# EAGLE library part 4VLX160FF1513 (library xilinx_spartan3_virtex4_and_5)
Xilinx FPGA
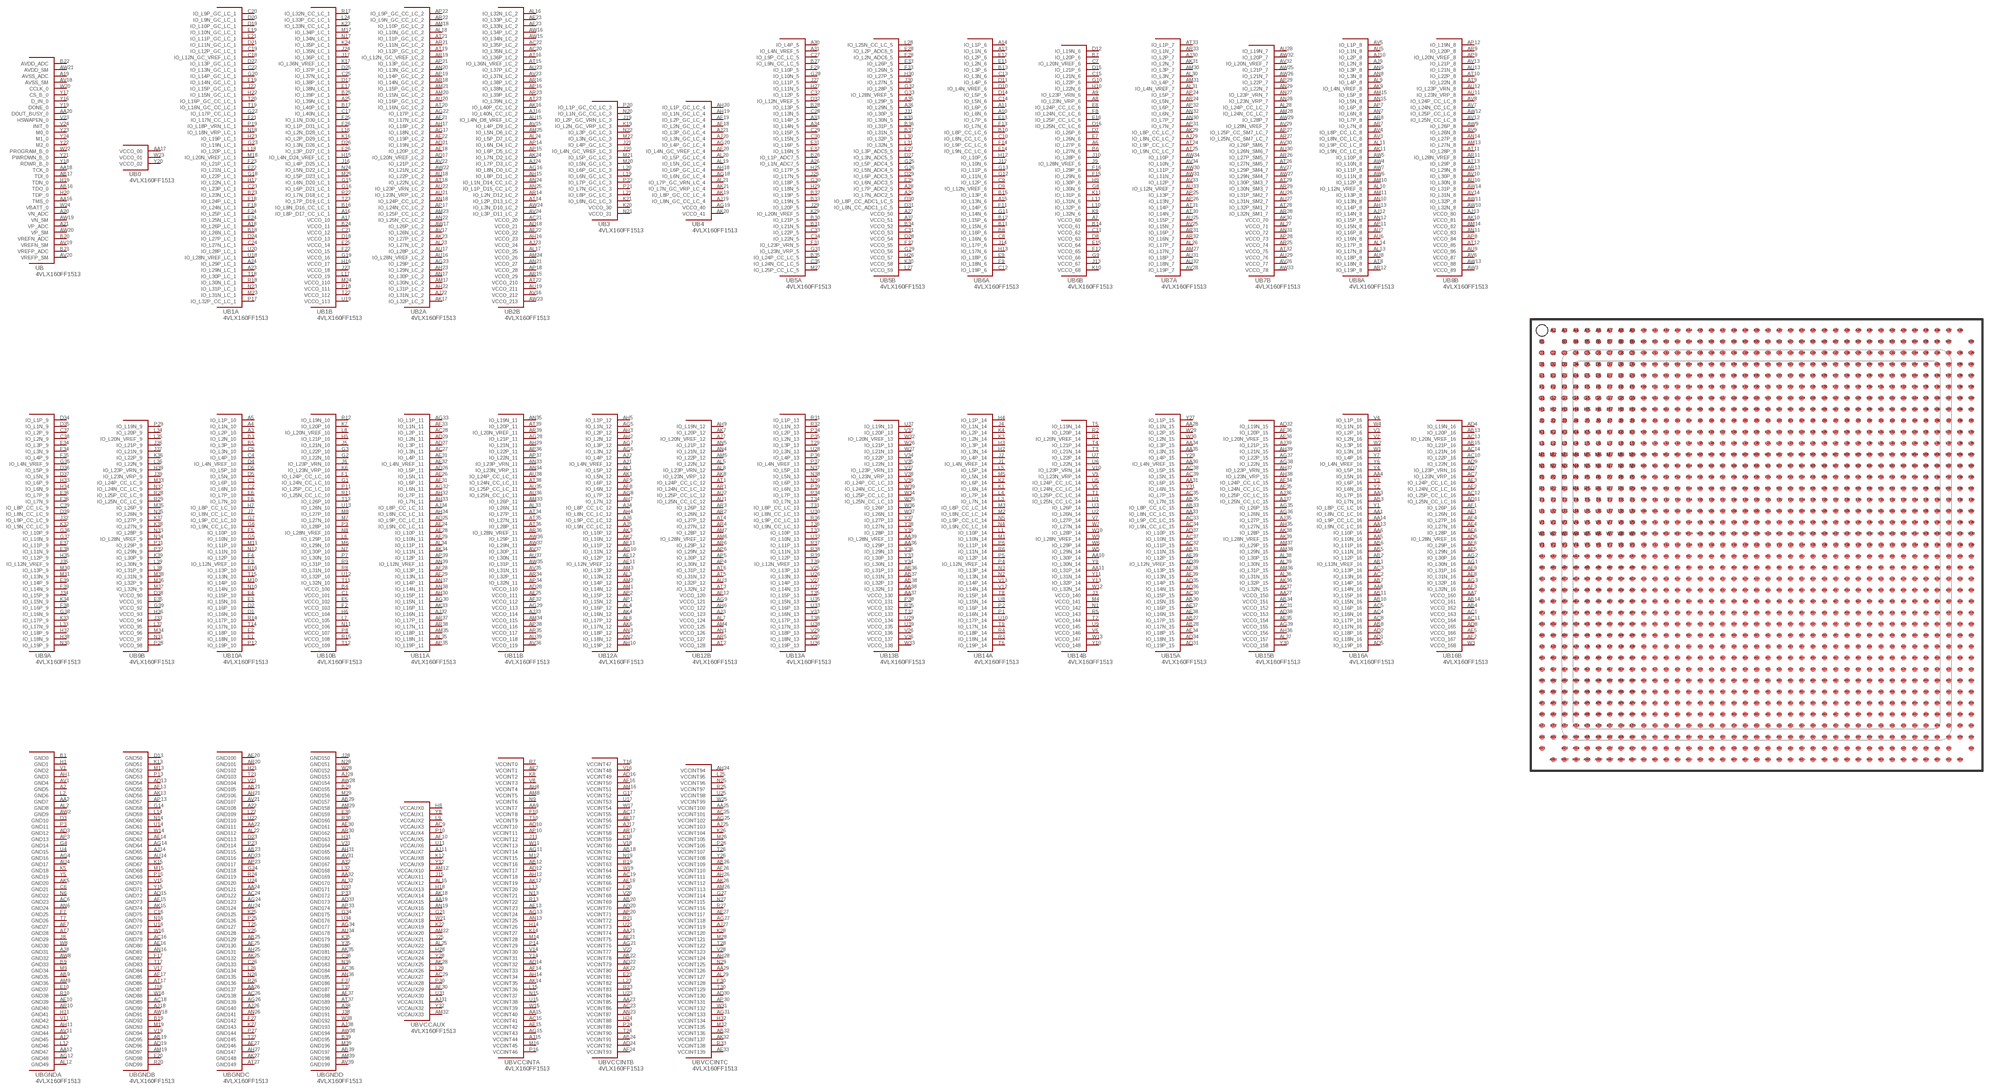
[diagram p86: symbol with the pads of FF1513; footprint FF1513]

Designator prefix U; gates B=4VLX160FF1513_ B0=4VLX160FF1513_0 B1A=4VLX160FF1513_1A B1B=4VLX160FF1513_1B B2A=4VLX160FF1513_2A B2B=4VLX160FF1513_2B B3=4VLX160FF1513_3 B4=4VLX160FF1513_4 B5A=4VLX160FF1513_5A B5B=4VLX160FF1513_5B B6A=4VLX160FF1513_6A B6B=4VLX160FF1513_6B B7A=4VLX160FF1513_7A B7B=4VLX160FF1513_7B B8A=4VLX160FF1513_8A B8B=4VLX160FF1513_8B B9A=4VLX160FF1513_9A B9B=4VLX160FF1513_9B B10A=4VLX160FF1513_10A B10B=4VLX160FF1513_10B B11A=4VLX160FF1513_11A B11B=4VLX160FF1513_11B B12A=4VLX160FF1513_12A B12B=4VLX160FF1513_12B B13A=4VLX160FF1513_13A B13B=4VLX160FF1513_13B B14A=4VLX160FF1513_14A B14B=4VLX160FF1513_14B B15A=4VLX160FF1513_15A B15B=4VLX160FF1513_15B B16A=4VLX160FF1513_16A B16B=4VLX160FF1513_16B BGNDA=4VLX160FF1513_GNDA BGNDB=4VLX160FF1513_GNDB BGNDC=4VLX160FF1513_GNDC BGNDD=4VLX160FF1513_GNDD BVCCAUX=4VLX160FF1513_VCCAUX BVCCINTA=4VLX160FF1513_VCCINTA BVCCINTB=4VLX160FF1513_VCCINTB BVCCINTC=4VLX160FF1513_VCCINTC

## 4VLX160FF1513  [FF1513]
A2  BGNDA:GND5  pas
A3  B10A:IO_L2P_10
A4  B10A:IO_L1N_10
A5  B10A:IO_L1P_10
A6  B6B:IO_L27P_6
A7  B6B:VCCO_60  pas
A8  B6B:IO_L23N_VRP_6
A9  B6B:IO_L23P_VRN_6
A10  B6A:IO_L6N_6
A11  B6A:IO_L6P_6
A12  BGNDA:GND45  pas
A13  B6A:IO_L1N_6
A14  B6A:IO_L1P_6
A15  B6A:IO_L13N_6
A16  B1B:IO_L8P_D17_CC_LC_1
A17  B1B:VCCO_10  pas
A18  B1A:IO_L26P_LC_1
A19  B:AVSS_ADC
A20  B:VN_ADC
A21  B:VP_ADC
A22  BGNDC:GND108  pas
A23  B1A:IO_L29N_LC_1
A24  B1A:IO_L29P_LC_1
A25  B1B:IO_L39N_LC_1
A26  B5A:IO_L1N_ADC7_5
A27  B5B:VCCO_50  pas
A28  B5B:IO_L7P_ADC2_5
A29  B5B:IO_L7N_ADC2_5
A30  B5A:IO_L4P_5
A31  B5A:IO_L4N_VREF_5
A32  BGNDD:GND167  pas
A33  B5A:IO_L14P_5
A34  B5A:IO_L14N_5
A35  B5B:IO_L29P_5
A36  B5B:IO_L29N_5
A37  B5B:VCCO_51  pas
A38  BGNDD:GND190  pas
AA1  B16A:IO_L8N_CC_LC_16
AA2  BGNDA:GND7  pas
AA3  B16A:IO_L7P_16
AA4  B16A:IO_L5N_16
AA5  B16A:IO_L10N_16
AA6  B16A:IO_L10P_16
AA7  B16B:VCCO_160  pas
AA8  B16A:IO_L14N_16
AA9  BVCCINTA:VCCINT7  pas
AA10  B14B:IO_L30P_14
AA11  B14B:IO_L31P_14
AA12  BGNDA:GND47  pas
AA13  B16A:IO_L9N_CC_LC_16
AA14  B16A:IO_L9P_CC_LC_16
AA15  BVCCINTA:VCCINT40  pas
AA16  B:TMS_0
AA17  B0:VCCO_00  pas
AA18  B:TCK_0
AA19  BVCCAUX:VCCAUX15  pas
AA20  B:DOUT_BUSY_0
AA21  BVCCINTB:VCCINT74  pas
AA22  BGNDC:GND111  pas
AA23  BVCCINTB:VCCINT85  pas
AA24  BGNDC:GND121  pas
AA25  BVCCINTC:VCCINT100  pas
AA26  BGNDC:GND137  pas
AA27  B15B:VCCO_150  pas
AA28  B15A:IO_L1N_15
AA29  BVCCINTC:VCCINT126  pas
AA30  B15A:IO_L4N_VREF_15
AA31  B15A:IO_L6P_15
AA32  BGNDD:GND169  pas
AA33  B15A:IO_L8N_CC_LC_15
AA34  B15A:IO_L3P_15
AA35  B15A:IO_L3N_15
AA36  B13B:IO_L29P_13
AA37  B13B:VCCO_130  pas
AA38  B13B:IO_L32N_13
AA39  B13B:IO_L28N_VREF_13
AB1  B16A:IO_L12N_VREF_16
AB2  B16A:IO_L12P_16
AB3  B16A:IO_L7N_16
AB4  B16B:VCCO_162  pas
AB5  B16A:IO_L11N_16
AB6  B16A:IO_L11P_16
AB7  B16A:IO_L14P_16
AB8  B16A:IO_L17N_16
AB9  BGNDA:GND35  pas
AB10  B16A:IO_L15N_16
AB11  B16A:IO_L15P_16
AB12  BVCCINTA:VCCINT16  pas
AB13  B16B:IO_L20P_16
AB14  B16B:VCCO_161  pas
AB15  B16B:IO_L21P_16
AB16  B:TDO_0
AB17  B:TDI_0
AB18  BVCCINTB:VCCINT61  pas
AB19  BGNDB:GND95  pas
AB20  BVCCINTB:VCCINT69  pas
AB21  BGNDC:GND105  pas
AB22  BVCCINTB:VCCINT78  pas
AB23  BGNDC:GND115  pas
AB24  BVCCINTB:VCCINT91  pas
AB25  BGNDC:GND129  pas
AB26  BVCCINTC:VCCINT109  pas
AB27  B15A:IO_L17P_15
AB28  B15A:IO_L17N_15
AB29  BGNDD:GND157  pas
AB30  B15A:IO_L15N_15
AB31  B15A:IO_L11N_15
AB32  BVCCINTC:VCCINT136  pas
AB33  B15A:IO_L8P_CC_LC_15
AB34  B15B:VCCO_151  pas
AB35  B15A:IO_L7N_15
AB36  B13B:IO_L31P_13
AB37  B13B:IO_L31N_13
AB38  B13B:IO_L32P_13
AB39  BGNDD:GND197  pas
AC1  B16B:VCCO_163  pas
AC2  B16A:IO_L13N_16
AC3  B16A:IO_L13P_16
AC4  B16A:IO_L16N_16
AC5  B16A:IO_L16P_16
AC6  BGNDA:GND23  pas
AC7  B16B:IO_L23N_VRP_16
AC8  B16A:IO_L17P_16
AC9  BVCCAUX:VCCAUX3  pas
AC10  B16B:IO_L22P_16
AC11  B16B:VCCO_164  pas
AC12  B16B:IO_L25P_CC_LC_16
AC13  B16B:IO_L20N_VREF_16
AC14  B16B:IO_L21N_16
AC15  BVCCINTA:VCCINT41  pas
AC16  BGNDB:GND79  pas
AC17  BVCCINTB:VCCINT55  pas
AC18  BGNDB:GND89  pas
AC19  BVCCINTB:VCCINT65  pas
AC20  B2B:IO_L35N_LC_2
AC21  B2B:VCCO_20  pas
AC22  B2B:IO_L35P_LC_2
AC23  BVCCINTB:VCCINT86  pas
AC24  BGNDC:GND122  pas
AC25  BVCCINTC:VCCINT101  pas
AC26  BGNDC:GND138  pas
AC27  B11A:IO_L3N_11
AC28  B11A:IO_L2P_11
AC29  BVCCAUX:VCCAUX27  pas
AC30  B15A:IO_L15P_15
AC31  B15B:VCCO_152  pas
AC32  B15A:IO_L11P_15
AC33  B15A:IO_L9P_CC_LC_15
AC34  B15A:IO_L9N_CC_LC_15
AC35  B15A:IO_L7P_15
AC36  BGNDD:GND184  pas
AC37  B15A:IO_L10N_15
AC38  B15A:IO_L5P_15
AC39  B15A:IO_L5N_15
AD1  B16A:IO_L18N_16
AD2  B16A:IO_L18P_16
AD3  BGNDA:GND12  pas
AD4  B16B:IO_L19N_16
AD5  B16A:IO_L19P_16
AD6  B16B:IO_L28N_VREF_16
AD7  B16B:IO_L23P_VRN_16
AD8  B16B:VCCO_165  pas
AD9  B16B:IO_L22N_16
AD10  BVCCINTA:VCCINT10  pas
AD11  B16B:IO_L25N_CC_LC_16
AD12  BVCCINTA:VCCINT17  pas
AD13  BGNDB:GND54  pas
AD14  BVCCINTA:VCCINT32  pas
AD15  BGNDB:GND72  pas
AD16  BVCCINTB:VCCINT49  pas
AD17  B2A:IO_L20N_VREF_LC_2
AD18  B2B:VCCO_21  pas
AD19  BGNDB:GND96  pas
AD20  BVCCINTB:VCCINT70  pas
AD21  B2A:IO_L19N_LC_2
AD22  BVCCINTB:VCCINT79  pas
AD23  BGNDC:GND116  pas
AD24  BVCCINTB:VCCINT92  pas
AD25  B11A:IO_L9P_CC_LC_11
AD26  B11A:IO_L5P_11
AD27  B11A:IO_L3P_11
AD28  B11B:VCCO_110  pas
AD29  B11A:IO_L2N_11
AD30  BVCCINTC:VCCINT130  pas
AD31  B15A:IO_L19P_15
AD32  B15B:IO_L19N_15
AD33  BGNDD:GND173  pas
AD34  B15A:IO_L18N_15
AD35  B15A:IO_L14P_15
AD36  B15A:IO_L14N_15
AD37  B15A:IO_L10P_15
AD38  B15B:VCCO_153  pas
AD39  B15A:IO_L12N_VREF_15
AE1  B16B:IO_L26N_16
AE2  B16B:IO_L24N_CC_LC_16
AE3  B16B:IO_L24P_CC_LC_16
AE4  B16B:IO_L27N_16
AE5  B16B:VCCO_166  pas
AE6  B16B:IO_L28P_16
AE7  BVCCINTA:VCCINT1  pas
AE8  B16B:IO_L31N_16
AE9  B16B:IO_L31P_16
AE10  BGNDA:GND39  pas
AE11  B12A:IO_L12N_VREF_12
AE12  B12A:IO_L12P_12
AE13  BVCCINTA:VCCINT23  pas
AE14  BGNDB:GND63  pas
AE15  BVCCINTA:VCCINT42  pas
AE16  BGNDB:GND80  pas
AE17  BVCCINTB:VCCINT56  pas
AE18  B2A:IO_L20P_LC_2
AE19  BVCCINTB:VCCINT66  pas
AE20  BGNDC:GND100  pas
AE21  BVCCINTB:VCCINT75  pas
AE22  B2A:IO_L19P_LC_2
AE23  B2B:IO_L33P_LC_2
AE24  B11A:IO_L9N_CC_LC_11
AE25  B11B:VCCO_111  pas
AE26  B11A:IO_L5N_11
AE27  BVCCINTC:VCCINT117  pas
AE28  B11A:IO_L10P_11
AE29  B11A:IO_L10N_11
AE30  BGNDD:GND161  pas
AE31  B11A:IO_L4P_11
AE32  B11A:IO_L4N_VREF_11
AE33  BVCCINTC:VCCINT139  pas
AE34  B15A:IO_L18P_15
AE35  B15B:VCCO_154  pas
AE36  B15B:IO_L20N_VREF_15
AE37  B15A:IO_L16P_15
AE38  B15A:IO_L16N_15
AE39  B15A:IO_L12P_15
AF1  B16B:IO_L26P_16
AF2  B16B:VCCO_167  pas
AF3  B16B:IO_L32N_16
AF4  B16B:IO_L27P_16
AF5  B16B:IO_L29N_16
AF6  B16B:IO_L29P_16
AF7  BGNDA:GND27  pas
AF8  B12A:IO_L6N_12
AF9  B12A:IO_L6P_12
AF10  BVCCAUX:VCCAUX5  pas
AF11  B12A:IO_L11P_12
AF12  B12B:VCCO_120  pas
AF13  BGNDB:GND55  pas
AF14  BVCCINTA:VCCINT33  pas
AF15  BGNDB:GND73  pas
AF16  BVCCINTB:VCCINT50  pas
AF17  BGNDB:GND85  pas
AF18  B4:IO_L2N_GC_LC_4
AF19  B4:IO_L2P_GC_LC_4
AF20  B4:IO_L4N_GC_VREF_LC_4
AF21  B2A:IO_L17N_LC_2
AF22  B2B:VCCO_22  pas
AF23  B2B:IO_L33N_LC_2
AF24  BVCCINTB:VCCINT93  pas
AF25  BGNDC:GND130  pas
AF26  BVCCINTC:VCCINT110  pas
AF27  BGNDC:GND146  pas
AF28  B11A:IO_L13P_11
AF29  B11A:IO_L13N_11
AF30  BVCCAUX:VCCAUX29  pas
AF31  B11A:IO_L6P_11
AF32  B11B:VCCO_112  pas
AF33  B11A:IO_L1N_11
AF34  B15B:IO_L24P_CC_LC_15
AF35  B15B:IO_L24N_CC_LC_15
AF36  B15B:IO_L20P_15
AF37  BGNDD:GND188  pas
AF38  B15A:IO_L13P_15
AF39  B15A:IO_L13N_15
AG1  B16B:IO_L30N_16
AG2  B16B:IO_L30P_16
AG3  B16B:IO_L32P_16
AG4  BGNDA:GND16  pas
AG5  B12A:IO_L1N_12
AG6  B12A:IO_L3N_12
AG7  B12A:IO_L3P_12
AG8  B12A:IO_L7P_12
AG9  B12B:VCCO_121  pas
AG10  B12A:IO_L11N_12
AG11  BVCCINTA:VCCINT14  pas
AG12  BGNDA:GND48  pas
AG13  BVCCINTA:VCCINT24  pas
AG14  BGNDB:GND64  pas
AG15  BVCCINTA:VCCINT43  pas
AG16  B2B:IO_L8N_D0_LC_2
AG17  B2A:IO_L18N_LC_2
AG18  B4:IO_L6N_GC_LC_4
AG19  B4:VCCO_40  pas
AG20  B4:IO_L4P_GC_LC_4
AG21  BVCCINTB:VCCINT76  pas
AG22  B2A:IO_L17P_LC_2
AG23  B2A:IO_L29P_LC_2
AG24  BGNDC:GND123  pas
AG25  BVCCINTC:VCCINT102  pas
AG26  BGNDC:GND139  pas
AG27  BVCCINTC:VCCINT118  pas
AG28  B11B:IO_L21P_11
AG29  B11B:VCCO_113  pas
AG30  B11A:IO_L15N_11
AG31  BVCCINTC:VCCINT133  pas
AG32  B11A:IO_L6N_11
AG33  B11A:IO_L1P_11
AG34  BGNDD:GND177  pas
AG35  B15B:IO_L26P_15
AG36  B15B:IO_L26N_15
AG37  B15B:IO_L22P_15
AG38  B15B:IO_L22N_15
AG39  B15B:VCCO_155  pas
AH1  BGNDA:GND3  pas
AH2  B12A:IO_L2N_12
AH3  B12A:IO_L2P_12
AH4  B12A:IO_L8N_CC_LC_12
AH5  B12A:IO_L1P_12
AH6  B12B:VCCO_122  pas
AH7  B12A:IO_L7N_12
AH8  BVCCINTA:VCCINT4  pas
AH9  B12B:IO_L19N_12
AH10  B12A:IO_L19P_12
AH11  BGNDA:GND43  pas
AH12  BVCCINTA:VCCINT18  pas
AH13  B8A:IO_L14P_8
AH14  BVCCINTA:VCCINT34  pas
AH15  B2B:IO_L8P_D1_LC_2
AH16  B2B:VCCO_23  pas
AH17  B2A:IO_L18P_LC_2
AH18  B4:IO_L6P_GC_LC_4
AH19  B4:IO_L1N_GC_LC_4
AH20  B4:IO_L1P_GC_LC_4
AH21  BGNDC:GND106  pas
AH22  B2A:IO_L31P_LC_2
AH23  B2A:IO_L29N_LC_2
AH24  BVCCINTC:VCCINT94  pas
AH25  BGNDC:GND131  pas
AH26  BVCCINTC:VCCINT111  pas
AH27  BGNDC:GND147  pas
AH28  BVCCINTC:VCCINT124  pas
AH29  B11B:IO_L21N_11
AH30  B11A:IO_L15P_11
AH31  BGNDD:GND165  pas
AH32  B11A:IO_L7P_11
AH33  B11A:IO_L7N_11
AH34  B11A:IO_L8N_CC_LC_11
AH35  B15B:IO_L27N_15
AH36  B15B:VCCO_156  pas
AH37  B15B:IO_L23P_VRN_15
AH38  B15B:IO_L23N_VRP_15
AH39  B15B:IO_L21N_15
AJ1  B12A:IO_L4N_VREF_12
AJ2  B12A:IO_L4P_12
AJ3  B12B:VCCO_123  pas
AJ4  B12A:IO_L8P_CC_LC_12
AJ5  B12A:IO_L9N_CC_LC_12
AJ6  B12A:IO_L9P_CC_LC_12
AJ7  B12B:IO_L20N_VREF_12
AJ8  BGNDA:GND31  pas
AJ9  B8A:IO_L2N_8
AJ10  B8A:IO_L2P_8
AJ11  BVCCAUX:VCCAUX7  pas
AJ12  B8A:IO_L14N_8
AJ13  B8B:VCCO_80  pas
AJ14  BGNDB:GND65  pas
AJ15  BVCCINTA:VCCINT44  pas
AJ16  B2B:IO_L40N_CC_LC_2
AJ17  BVCCINTB:VCCINT57  pas
AJ18  BGNDB:GND90  pas
AJ19  B4:IO_L8N_GC_CC_LC_4
AJ20  B4:IO_L3N_GC_LC_4
AJ21  B4:IO_L3P_GC_LC_4
AJ22  B2A:IO_L31N_LC_2
AJ23  B2B:VCCO_24  pas
AJ24  B2B:IO_L7P_D3_LC_2
AJ25  BVCCINTC:VCCINT103  pas
AJ26  BGNDC:GND140  pas
AJ27  BVCCINTC:VCCINT119  pas
AJ28  BGNDD:GND153  pas
AJ29  B7A:IO_L8N_CC_LC_7
AJ30  B7A:IO_L2P_7
AJ31  BVCCAUX:VCCAUX31  pas
AJ32  B11A:IO_L16N_11
AJ33  B11B:VCCO_114  pas
AJ34  B11A:IO_L8P_CC_LC_11
AJ35  B15B:IO_L27P_15
AJ36  B15B:IO_L25P_CC_LC_15
AJ37  B15B:IO_L25N_CC_LC_15
AJ38  BGNDD:GND193  pas
AJ39  B15B:IO_L21P_15
AK1  B12A:IO_L5N_12
AK2  B12A:IO_L10N_12
AK3  B12A:IO_L10P_12
AK4  B12A:IO_L16N_12
AK5  BGNDA:GND20  pas
AK6  B12A:IO_L17N_12
AK7  B12B:IO_L20P_12
AK8  B12B:IO_L23N_VRP_12
AK9  B8A:IO_L4N_VREF_8
AK10  B8B:VCCO_81  pas
AK11  B8A:IO_L9N_CC_LC_8
AK12  BVCCINTA:VCCINT19  pas
AK13  BGNDB:GND56  pas
AK14  BVCCINTA:VCCINT35  pas
AK15  BGNDB:GND74  pas
AK16  B2B:IO_L40P_CC_LC_2
AK17  B2A:IO_L32P_LC_2
AK18  BVCCAUX:VCCAUX14  pas
AK19  B4:IO_L8P_GC_CC_LC_4
AK20  B4:VCCO_41  pas
AK21  B4:IO_L7N_GC_VRP_LC_4
AK22  BVCCINTB:VCCINT80  pas
AK23  B2A:IO_L27P_LC_2
AK24  B2B:IO_L7N_D2_LC_2
AK25  BGNDC:GND132  pas
AK26  BVCCINTC:VCCINT112  pas
AK27  BGNDC:GND148  pas
AK28  BVCCAUX:VCCAUX25  pas
AK29  B7A:IO_L8P_CC_LC_7
AK30  B7B:VCCO_70  pas
AK31  B7A:IO_L2N_7
AK32  BVCCINTC:VCCINT137  pas
AK33  B11A:IO_L16P_11
AK34  B11A:IO_L11N_11
AK35  BGNDD:GND181  pas
AK36  B15B:IO_L32P_15
AK37  B15B:IO_L32N_15
AK38  B15B:IO_L28P_15
AK39  B15B:IO_L28N_VREF_15
AL1  B12A:IO_L5P_12
AL2  BGNDA:GND8  pas
AL3  B12A:IO_L13N_12
AL4  B12A:IO_L16P_12
AL5  B12B:IO_L22N_12
AL6  B12A:IO_L17P_12
AL7  B12B:VCCO_124  pas
AL8  B12B:IO_L23P_VRN_12
AL9  B8A:IO_L4P_8
AL10  B8A:IO_L12N_VREF_8
AL11  B8A:IO_L9P_CC_LC_8
AL12  BGNDA:GND49  pas
AL13  B8A:IO_L17N_8
AL14  B8A:IO_L17P_8
AL15  BVCCAUX:VCCAUX12  pas
AL16  B2B:IO_L32N_LC_2
AL17  B2B:VCCO_25  pas
AL18  B2A:IO_L10N_GC_LC_2
AL19  B4:IO_L5N_GC_LC_4
AL20  B4:IO_L5P_GC_LC_4
AL21  B4:IO_L7P_GC_VRN_LC_4
AL22  BGNDC:GND112  pas
AL23  B2A:IO_L27N_LC_2
AL24  B2B:IO_L5P_D7_LC_2
AL25  BVCCAUX:VCCAUX22  pas
AL26  B7A:IO_L17P_7
AL27  B7B:VCCO_71  pas
AL28  B7B:IO_L24P_CC_LC_7
AL29  BVCCINTC:VCCINT127  pas
AL30  B7A:IO_L3N_7
AL31  B7A:IO_L4N_VREF_7
AL32  BGNDD:GND170  pas
AL33  B11B:IO_L26N_11
AL34  B11A:IO_L11P_11
AL35  B11A:IO_L18N_11
AL36  B15B:IO_L31N_15
AL37  B15B:VCCO_157  pas
AL38  B15B:IO_L30P_15
AL39  B15B:IO_L30N_15
AM1  B12A:IO_L14N_12
AM2  B12A:IO_L14P_12
AM3  B12A:IO_L13P_12
AM4  B12B:VCCO_125  pas
AM5  B12B:IO_L22P_12
AM6  B12B:IO_L28N_VREF_12
AM7  B12B:IO_L28P_12
AM8  BVCCINTA:VCCINT5  pas
AM9  BGNDA:GND36  pas
AM10  B8A:IO_L12P_8
AM11  B8A:IO_L13P_8
AM12  BVCCAUX:VCCAUX10  pas
AM13  B8B:IO_L27N_8
AM14  B8B:VCCO_82  pas
AM15  B8A:IO_L5P_8
AM16  BVCCINTB:VCCINT51  pas
AM17  B2A:IO_L30N_LC_2
AM18  B2A:IO_L10P_GC_LC_2
AM19  BGNDB:GND97  pas
AM20  B2A:IO_L15N_GC_LC_2
AM21  B2A:IO_L15P_GC_LC_2
AM22  BVCCAUX:VCCAUX20  pas
AM23  B2A:IO_L25P_CC_LC_2
AM24  B2B:VCCO_26  pas
AM25  B2B:IO_L5N_D6_LC_2
AM26  BVCCINTC:VCCINT113  pas
AM27  B7A:IO_L17N_7
AM28  B7B:IO_L24N_CC_LC_7
AM29  BGNDD:GND158  pas
AM30  B7A:IO_L3P_7
AM31  B7A:IO_L4P_7
AM32  BVCCAUX:VCCAUX33  pas
AM33  B11B:IO_L26P_11
AM34  B11B:VCCO_115  pas
AM35  B11A:IO_L18P_11
AM36  B15B:IO_L31P_15
AM37  B15B:IO_L29P_15
AM38  B15B:IO_L29N_15
AM39  BGNDD:GND198  pas
AN1  B12B:VCCO_126  pas
AN2  B12A:IO_L18N_12
AN3  B12A:IO_L18P_12
AN4  B12B:IO_L21N_12
AN5  B12B:IO_L21P_12
AN6  BGNDA:GND24  pas
AN7  B8A:IO_L6N_8
AN8  B8A:IO_L3N_8
AN9  B8A:IO_L3P_8
AN10  B8A:IO_L13N_8
AN11  B8B:VCCO_83  pas
AN12  B8A:IO_L15P_8
AN13  BVCCINTA:VCCINT25  pas
AN14  B8B:IO_L27P_8
AN15  B8A:IO_L5N_8
AN16  BGNDB:GND81  pas
AN17  B2A:IO_L30P_LC_2
AN18  B2A:IO_L24P_CC_LC_2
AN19  BVCCAUX:VCCAUX16  pas
AN20  B2A:IO_L13N_GC_LC_2
AN21  B2B:VCCO_27  pas
AN22  B2A:IO_L25N_CC_LC_2
AN23  BVCCINTB:VCCINT87  pas
AN24  B2B:IO_L1N_D14_CC_LC_2
AN25  B2B:IO_L1P_D15_CC_LC_2
AN26  BGNDC:GND141  pas
AN27  B7B:IO_L23P_VRN_7
AN28  B7B:IO_L23N_VRP_7
AN29  B7B:IO_L22N_7
AN30  B7A:IO_L7P_7
AN31  B7B:VCCO_72  pas
AN32  B7A:IO_L6N_7
AN33  B11B:IO_L23P_VRN_11
AN34  B11B:IO_L23N_VRP_11
AN35  B11B:IO_L19N_11
AN36  BGNDD:GND185  pas
AN37  B11A:IO_L14P_11
AN38  B11A:IO_L14N_11
AN39  B11A:IO_L12N_VREF_11
AP1  B12A:IO_L15N_12
AP2  B12A:IO_L15P_12
AP3  BGNDA:GND13  pas
AP4  B12B:IO_L30N_12
AP5  B12B:IO_L30P_12
AP6  B12B:IO_L29N_12
AP7  B8A:IO_L6P_8
AP8  B8B:VCCO_84  pas
AP9  B8B:IO_L20N_VREF_8
AP10  BVCCINTA:VCCINT11  pas
AP11  B8A:IO_L15N_8
AP12  B8B:IO_L19N_8
AP13  BGNDB:GND57  pas
AP14  B2B:IO_L6N_D4_LC_2
AP15  B2B:IO_L6P_D5_LC_2
AP16  B2B:IO_L38N_LC_2
AP17  B2A:IO_L24N_CC_LC_2
AP18  B2B:VCCO_28  pas
AP19  B2A:IO_L14P_GC_LC_2
AP20  BVCCINTB:VCCINT71  pas
AP21  B2A:IO_L13P_GC_LC_2
AP22  B2A:IO_L9P_GC_CC_LC_2
AP23  BGNDC:GND117  pas
AP24  B7A:IO_L5P_7
AP25  B7A:IO_L13P_7
AP26  B7A:IO_L13N_7
AP27  B7B:IO_L25P_CC_SM7_LC_7
AP28  B7B:VCCO_73  pas
AP29  B7B:IO_L22P_7
AP30  BVCCINTC:VCCINT131  pas
AP31  B7A:IO_L7N_7
AP32  B7A:IO_L6P_7
AP33  BGNDD:GND174  pas
AP34  B11B:IO_L32N_11
AP35  B11A:IO_L19P_11
AP36  B11B:IO_L22P_11
AP37  B11B:IO_L22N_11
AP38  B11B:VCCO_116  pas
AP39  B11A:IO_L12P_11
AR1  B12B:IO_L24N_CC_LC_12
AR2  B12B:IO_L26N_12
AR3  B12B:IO_L26P_12
AR4  B12B:IO_L27N_12
AR5  B12B:VCCO_127  pas
AR6  B12B:IO_L29P_12
AR7  B8A:IO_L7N_8
AR8  B8A:IO_L7P_8
AR9  B8B:IO_L20P_8
AR10  BGNDA:GND40  pas
AR11  B8B:IO_L28N_VREF_8
AR12  B8A:IO_L19P_8
AR13  B8B:IO_L29N_8
AR14  B2B:IO_L2N_D12_LC_2
AR15  B2B:VCCO_29  pas
AR16  B2B:IO_L38P_LC_2
AR17  BVCCINTB:VCCINT58  pas
AR18  B2A:IO_L14N_GC_LC_2
AR19  B2A:IO_L12N_GC_VREF_LC_2
AR20  BGNDC:GND101  pas
AR21  B2A:IO_L11N_GC_LC_2
AR22  B2A:IO_L9N_GC_CC_LC_2
AR23  B2B:IO_L39P_LC_2
AR24  B7A:IO_L5N_7
AR25  B7B:VCCO_74  pas
AR26  B7B:IO_L27P_SM5_7
AR27  B7B:IO_L25N_CC_SM7_LC_7
AR28  B7B:IO_L32N_SM1_7
AR29  B7B:IO_L30N_SM3_7
AR30  BGNDD:GND162  pas
AR31  B7A:IO_L16P_7
AR32  B7A:IO_L16N_7
AR33  B7A:IO_L1N_7
AR34  B11B:IO_L32P_11
AR35  B11B:VCCO_117  pas
AR36  B11B:IO_L28N_VREF_11
AR37  B11A:IO_L17P_11
AR38  B11A:IO_L17N_11
AR39  B11B:IO_L20N_VREF_11
AT1  B12B:IO_L24P_CC_LC_12
AT2  B12B:VCCO_128  pas
AT3  B12B:IO_L32N_12
AT4  B12B:IO_L27P_12
AT5  B12B:IO_L31N_12
AT6  B12B:IO_L31P_12
AT7  BGNDA:GND28  pas
AT8  B8A:IO_L18N_8
AT9  B8B:IO_L22N_8
AT10  B8B:IO_L22P_8
AT11  B8B:IO_L28P_8
AT12  B8B:VCCO_85  pas
AT13  B8B:IO_L29P_8
AT14  B2B:IO_L2P_D13_LC_2
AT15  B2B:IO_L36N_VREF_LC_2
AT16  B2B:IO_L36P_LC_2
AT17  BGNDB:GND86  pas
AT18  B2A:IO_L22N_LC_2
AT19  B2A:IO_L12P_GC_LC_2
AT20  B2A:IO_L16N_GC_LC_2
AT21  B2A:IO_L11P_GC_LC_2
AT22  B2B:VCCO_210  pas
AT23  B2B:IO_L39N_LC_2
AT24  B7A:IO_L9P_CC_LC_7
AT25  B7A:IO_L9N_CC_LC_7
AT26  B7B:IO_L27N_SM5_7
AT27  BGNDC:GND149  pas
AT28  B7B:IO_L32P_SM1_7
AT29  B7B:IO_L30P_SM3_7
AT30  B7A:IO_L14N_7
AT31  B7A:IO_L14P_7
AT32  B7B:VCCO_75  pas
AT33  B7A:IO_L1P_7
AT34  B11B:IO_L27P_11
AT35  B11B:IO_L27N_11
AT36  B11B:IO_L28P_11
AT37  BGNDD:GND189  pas
AT38  B11B:IO_L24N_CC_LC_11
AT39  B11B:IO_L20P_11
AU1  B12B:IO_L25N_CC_LC_12
AU2  B12B:IO_L25P_CC_LC_12
AU3  B12B:IO_L32P_12
AU4  BGNDA:GND17  pas
AU5  B8A:IO_L1N_8
AU6  B8A:IO_L16N_8
AU7  B8A:IO_L16P_8
AU8  B8A:IO_L18P_8
AU9  B8B:VCCO_86  pas
AU10  B8B:IO_L30N_8
AU11  B8B:IO_L23N_VRP_8
AU12  B8B:IO_L23P_VRN_8
AU13  B8B:IO_L21N_8
AU14  BGNDB:GND66  pas
AU15  B2B:IO_L4N_D8_VREF_LC_2
AU16  B2A:IO_L28N_VREF_LC_2
AU17  B2A:IO_L28P_LC_2
AU18  B2A:IO_L22P_LC_2
AU19  B2B:VCCO_211  pas
AU20  B2A:IO_L16P_GC_LC_2
AU21  B2A:IO_L23N_VRP_LC_2
AU22  B2A:IO_L23P_VRN_LC_2
AU23  B2B:IO_L37P_LC_2
AU24  BGNDC:GND124  pas
AU25  B7A:IO_L15P_7
AU26  B7B:IO_L31P_SM2_7
AU27  B7B:IO_L31N_SM2_7
AU28  B7B:IO_L19N_7
AU29  B7B:VCCO_76  pas
AU30  B7B:IO_L26N_SM6_7
AU31  B7A:IO_L18P_7
AU32  B7A:IO_L18N_7
AU33  B7A:IO_L12N_VREF_7
AU34  BGNDD:GND178  pas
AU35  B11B:IO_L25P_CC_LC_11
AU36  B11B:IO_L25N_CC_LC_11
AU37  B11B:IO_L30N_11
AU38  B11B:IO_L24P_CC_LC_11
AU39  B11B:VCCO_118  pas
AV1  BGNDA:GND4  pas
AV3  B8A:IO_L8N_CC_LC_8
AV4  B8A:IO_L8P_CC_LC_8
AV5  B8A:IO_L1P_8
AV6  B8B:VCCO_87  pas
AV7  B8B:IO_L24N_CC_LC_8
AV8  B8B:IO_L24P_CC_LC_8
AV9  B8B:IO_L26N_8
AV10  B8B:IO_L30P_8
AV11  BGNDA:GND44  pas
AV12  B8B:IO_L25N_CC_LC_8
AV13  B8B:IO_L21P_8
AV14  B8B:IO_L31N_8
AV15  B2B:IO_L4P_D9_LC_2
AV16  B2B:VCCO_212  pas
AV17  B2A:IO_L26N_LC_2
AV18  B:AVSS_SM
AV19  B:VREFN_SM
AV20  B:VREFP_SM
AV21  BGNDC:GND107  pas
AV22  B2A:IO_L21P_LC_2
AV23  B2B:IO_L37N_LC_2
AV24  B2B:IO_L3P_D11_LC_2
AV25  B7A:IO_L15N_7
AV26  B7B:VCCO_77  pas
AV27  B7B:IO_L29P_SM4_7
AV28  B7A:IO_L19P_7
AV29  B7B:IO_L28N_VREF_7
AV30  B7B:IO_L26P_SM6_7
AV31  BGNDD:GND166  pas
AV32  B7B:IO_L20N_VREF_7
AV33  B7A:IO_L12P_7
AV34  B7A:IO_L10N_7
AV35  B11B:IO_L31N_11
AV36  B11B:VCCO_119  pas
AV37  B11B:IO_L30P_11
AV39  BGNDD:GND199  pas
AW2  BGNDA:GND9  pas
AW3  B8B:VCCO_89  pas
AW4  B8A:IO_L10N_8
AW5  B8A:IO_L10P_8
AW6  B8A:IO_L11N_8
AW7  B8A:IO_L11P_8
AW8  BGNDA:GND32  pas
AW9  B8B:IO_L26P_8
AW10  B8B:IO_L32N_8
AW11  B8B:IO_L32P_8
AW12  B8B:IO_L25P_CC_LC_8
AW13  B8B:VCCO_88  pas
AW14  B8B:IO_L31P_8
AW15  B2B:IO_L34N_LC_2
AW16  B2B:IO_L34P_LC_2
AW17  B2A:IO_L26P_LC_2
AW18  BGNDB:GND91  pas
AW19  B:VN_SM
AW20  B:VP_SM
AW21  B:AVDD_SM
AW22  B2A:IO_L21N_LC_2
AW23  B2B:VCCO_213  pas
AW24  B2B:IO_L3N_D10_LC_2
AW25  B7B:IO_L21P_7
AW26  B7B:IO_L21N_7
AW27  B7B:IO_L29N_SM4_7
AW28  BGNDD:GND154  pas
AW29  B7B:IO_L28P_7
AW30  B7A:IO_L11P_7
AW31  B7A:IO_L11N_7
AW32  B7B:IO_L20P_7
AW33  B7B:VCCO_78  pas
AW34  B7A:IO_L10P_7
AW35  B11B:IO_L31P_11
AW36  B11B:IO_L29P_11
AW37  B11B:IO_L29N_11
AW38  BGNDD:GND194  pas
B1  BGNDA:GND0  pas
B3  B10A:IO_L2N_10
B4  B10B:VCCO_100  pas
B5  B10A:IO_L3P_10
B6  B6B:IO_L27N_6
B7  B6B:IO_L20P_6
B8  B6A:IO_L16P_6
B9  BGNDA:GND33  pas
B10  B6A:IO_L8P_CC_LC_6
B11  B6A:IO_L15N_6
B12  B6A:IO_L15P_6
B13  B6A:IO_L3P_6
B14  B6B:VCCO_61  pas
B15  B6A:IO_L13P_6
B16  B1B:IO_L8N_D16_CC_LC_1
B17  B1B:IO_L40P_LC_1
B18  B1A:IO_L26N_LC_1
B19  BGNDB:GND92  pas
B20  B:VREFN_ADC
B21  B:VREFP_ADC
B22  B:AVDD_ADC
B23  B1A:IO_L23N_LC_1
B24  B1B:VCCO_11  pas
B25  B1B:IO_L39P_LC_1
B26  B5A:IO_L1P_ADC7_5
B27  B5A:IO_L9N_CC_LC_5
B28  B5A:IO_L13P_5
B29  BGNDD:GND155  pas
B30  B5A:IO_L21P_5
B31  B5A:IO_L21N_5
B32  B5A:IO_L19P_5
B33  B5A:IO_L19N_5
B34  B5B:VCCO_52  pas
B35  B5A:IO_L24P_CC_LC_5
B36  B5B:IO_L31P_5
B37  B5B:IO_L31N_5
B39  BGNDD:GND195  pas
C1  B10B:VCCO_101  pas
C2  B10A:IO_L6N_10
C3  B10A:IO_L6P_10
C4  B10A:IO_L4P_10
C5  B10A:IO_L3N_10
C6  BGNDA:GND21  pas
C7  B6B:IO_L20N_VREF_6
C8  B6A:IO_L16N_6
C9  B6A:IO_L12P_6
C10  B6A:IO_L8N_CC_LC_6
C11  B6B:VCCO_62  pas
C12  B6A:IO_L19P_6
C13  B6A:IO_L3N_6
C14  B6A:IO_L5N_6
C15  B6B:IO_L21N_6
C16  BGNDB:GND75  pas
C17  B1B:IO_L40N_LC_1
C18  B1A:IO_L12N_GC_VREF_LC_1
C19  B1A:IO_L12P_GC_LC_1
C20  B1A:IO_L9P_GC_LC_1
C21  B1B:VCCO_12  pas
C22  B1A:IO_L13N_GC_LC_1
C23  B1A:IO_L23P_LC_1
C24  B1A:IO_L27N_LC_1
C25  B1B:IO_L37N_LC_1
C26  BGNDC:GND133  pas
C27  B5A:IO_L9P_CC_LC_5
C28  B5A:IO_L13N_5
C29  B5A:IO_L15P_5
C30  B5A:IO_L15N_5
C31  B5B:VCCO_53  pas
C32  B5A:IO_L12P_5
C33  B5A:IO_L22P_5
C34  B5A:IO_L22N_5
C35  B5A:IO_L24N_CC_LC_5
C36  BGNDD:GND182  pas
C37  B9A:IO_L2P_9
C38  B9A:IO_L2N_9
C39  B9A:IO_L8P_CC_LC_9
D1  B10A:IO_L16N_10
D2  B10A:IO_L16P_10
D3  BGNDA:GND10  pas
D4  B10A:IO_L4N_VREF_10
D5  B10A:IO_L5N_10
D6  B10A:IO_L5P_10
D7  B6B:IO_L26P_6
D8  B6B:VCCO_63  pas
D9  B6A:IO_L12N_VREF_6
D10  B6A:IO_L4N_VREF_6
D11  B6A:IO_L4P_6
D12  B6B:IO_L19N_6
D13  BGNDB:GND50  pas
D14  B6A:IO_L5P_6
D15  B6B:IO_L21P_6
D16  B6B:IO_L25N_CC_LC_6
D17  B1B:IO_L38P_LC_1
D18  B1B:VCCO_13  pas
D19  B1A:IO_L10P_GC_LC_1
D20  B1A:IO_L9N_GC_LC_1
D21  B1A:IO_L11N_GC_LC_1
D22  B1A:IO_L13P_GC_LC_1
D23  BGNDC:GND113  pas
D24  B1A:IO_L27P_LC_1
D25  B1B:IO_L37P_LC_1
D26  B1B:IO_L3N_D26_LC_1
D27  B5B:IO_L3N_ADC5_5
D28  B5B:VCCO_54  pas
D29  B5B:IO_L6P_ADC3_5
D30  B5B:IO_L8P_CC_ADC1_LC_5
D31  B5B:IO_L8N_CC_ADC1_LC_5
D32  B5A:IO_L12N_VREF_5
D33  BGNDD:GND171  pas
D34  B9A:IO_L1P_9
D35  B9A:IO_L1N_9
D36  B9A:IO_L5P_9
D37  B9A:IO_L5N_9
D38  B9B:VCCO_90  pas
D39  B9A:IO_L8N_CC_LC_9
E1  B10A:IO_L18N_10
E2  B10A:IO_L18P_10
E3  B10A:IO_L15N_10
E4  B10A:IO_L15P_10
E5  B10B:VCCO_102  pas
E6  B10A:IO_L7P_10
E7  B6B:IO_L26N_6
E8  B6B:IO_L24P_CC_LC_6
E9  B6A:IO_L18P_6
E10  BGNDA:GND37  pas
E11  B6A:IO_L2N_6
E12  B6A:IO_L2P_6
E13  B6A:IO_L7P_6
E14  B6A:IO_L9N_CC_LC_6
E15  B6B:VCCO_64  pas
E16  B6B:IO_L25P_CC_LC_6
E17  B1B:IO_L38N_LC_1
E18  B1A:IO_L24P_LC_1
E19  B1A:IO_L10N_GC_LC_1
E20  BGNDB:GND98  pas
E21  B1A:IO_L11P_GC_LC_1
E22  B1A:IO_L21N_LC_1
E23  BVCCINTB:VCCINT81  pas
E24  B1A:IO_L25N_LC_1
E25  B1B:VCCO_14  pas
E26  B1B:IO_L3P_D27_LC_1
E27  B5B:IO_L3P_ADC5_5
E28  B5B:IO_L2P_ADC6_5
E29  B5B:IO_L6N_ADC3_5
E30  BGNDD:GND159  pas
E31  B5A:IO_L16P_5
E32  B5A:IO_L16N_5
E33  B5B:IO_L26P_5
E34  B9A:IO_L3P_9
E35  B9B:VCCO_91  pas
E36  B9A:IO_L7P_9
E37  B9A:IO_L11P_9
E38  B9A:IO_L11N_9
E39  B9A:IO_L14P_9
F1  B10B:IO_L24P_CC_LC_10
F2  B10B:VCCO_103  pas
F3  B10A:IO_L12N_VREF_10
F4  B10A:IO_L12P_10
F5  B10A:IO_L10P_10
F6  B10A:IO_L7N_10
F7  BGNDA:GND25  pas
F8  B6B:IO_L24N_CC_LC_6
F9  B6A:IO_L18N_6
F10  BVCCINTA:VCCINT8  pas
F11  B6A:IO_L14P_6
F12  B6B:VCCO_65  pas
F13  B6A:IO_L7N_6
F14  B6A:IO_L9P_CC_LC_6
F15  B6B:IO_L29N_6
F16  B6B:IO_L29P_6
F17  BGNDB:GND82  pas
F18  B1A:IO_L24N_LC_1
F19  B1A:IO_L14N_GC_LC_1
F20  BVCCINTB:VCCINT67  pas
F21  B1A:IO_L17N_CC_LC_1
F22  B1B:VCCO_15  pas
F23  B1A:IO_L21P_LC_1
F24  B1A:IO_L25P_LC_1
F25  B1B:IO_L1N_D30_LC_1
F26  B1B:IO_L1P_D31_LC_1
F27  BGNDC:GND142  pas
F28  B5B:IO_L2N_ADC6_5
F29  B5A:IO_L10P_5
F30  BVCCINTC:VCCINT128  pas
F31  B5A:IO_L23P_VRN_5
F32  B5B:VCCO_55  pas
F33  B5B:IO_L26N_5
F34  B9A:IO_L3N_9
F35  B9A:IO_L4P_9
F36  B9A:IO_L7N_9
F37  BGNDD:GND186  pas
F38  B9A:IO_L16P_9
F39  B9A:IO_L14N_9
G1  B10B:IO_L24N_CC_LC_10
G2  B10B:IO_L22N_10
G3  B10B:IO_L22P_10
G4  BGNDA:GND14  pas
G5  B10A:IO_L10N_10
G6  B10A:IO_L9N_CC_LC_10
G7  B10A:IO_L9P_CC_LC_10
G8  B6B:IO_L30N_6
G9  B6B:VCCO_66  pas
G10  B6B:IO_L22P_6
G11  B6A:IO_L14N_6
G12  B6A:IO_L11N_6
G13  B6A:IO_L11P_6
G14  BGNDB:GND58  pas
G15  B1B:IO_L6N_D20_LC_1
G16  B1B:IO_L6P_D21_LC_1
G17  BVCCINTB:VCCINT52  pas
G18  B1A:IO_L22P_LC_1
G19  B1B:VCCO_16  pas
G20  B1A:IO_L14P_GC_LC_1
G21  BVCCAUX:VCCAUX17  pas
G22  B1A:IO_L17P_CC_LC_1
G23  B1A:IO_L19N_LC_1
G24  BGNDC:GND118  pas
G25  B5B:IO_L5P_ADC4_5
G26  B5B:IO_L5N_ADC4_5
G27  BVCCINTC:VCCINT114  pas
G28  B5A:IO_L10N_5
G29  B5B:VCCO_56  pas
G30  B5A:IO_L18P_5
G31  B5A:IO_L23N_VRP_5
G32  B5B:IO_L28P_5
G33  B5B:IO_L28N_VREF_5
G34  BGNDD:GND175  pas
G35  B9A:IO_L4N_VREF_9
G36  B9A:IO_L10P_9
G37  B9A:IO_L10N_9
G38  B9A:IO_L16N_9
G39  B9B:VCCO_92  pas
H1  BGNDA:GND1  pas
H2  B14A:IO_L3N_14
H3  B14A:IO_L3P_14
H4  B14A:IO_L1P_14
H5  B10B:IO_L21P_10
H6  B10B:VCCO_104  pas
H7  B10A:IO_L8P_CC_LC_10
H8  BVCCAUX:VCCAUX0  pas
H9  B6B:IO_L30P_6
H10  B6B:IO_L22N_6
H11  BGNDA:GND41  pas
H12  B6A:IO_L10P_6
H13  B6A:IO_L17N_6
H14  BVCCINTA:VCCINT26  pas
H15  B1B:IO_L4N_D24_VREF_LC_1
H16  B1B:VCCO_17  pas
H17  B1A:IO_L22N_LC_1
H18  BVCCAUX:VCCAUX13  pas
H19  B:TDN_0
H20  B:TDP_0
H21  BGNDC:GND102  pas
H22  B1A:IO_L15N_GC_LC_1
H23  B1A:IO_L19P_LC_1
H24  BVCCINTB:VCCINT88  pas
H25  B5A:IO_L17P_5
H26  B5B:VCCO_57  pas
H27  B5A:IO_L11N_5
H28  BVCCAUX:VCCAUX23  pas
H29  B5A:IO_L18N_5
H30  B5B:IO_L27P_5
H31  BGNDD:GND163  pas
H32  BVCCINTC:VCCINT134  pas
H33  B9A:IO_L6P_9
H34  B9A:IO_L6N_9
H35  B9A:IO_L12P_9
H36  B9B:VCCO_93  pas
H37  B9A:IO_L18P_9
H38  B9A:IO_L18N_9
H39  B9B:IO_L23P_VRN_9
J1  B14A:IO_L4N_VREF_14
J2  B14A:IO_L4P_14
J3  B14B:VCCO_140  pas
J4  B14A:IO_L1N_14
J5  B10B:IO_L21N_10
J6  B10B:IO_L23P_VRN_10
J7  B10A:IO_L8N_CC_LC_10
J8  BGNDA:GND29  pas
J9  B6B:IO_L28N_VREF_6
J10  B6B:IO_L28P_6
J11  BVCCINTA:VCCINT12  pas
J12  B6A:IO_L10N_6
J13  B6B:VCCO_67  pas
J14  B6A:IO_L17P_6
J15  BVCCAUX:VCCAUX11  pas
J16  B1B:IO_L4P_D25_LC_1
J17  B1B:IO_L36P_LC_1
J18  BGNDB:GND87  pas
J19  B3:IO_L2P_GC_VRN_LC_3
J20  B3:IO_L4N_GC_VREF_LC_3
J21  B3:IO_L4P_GC_LC_3
J22  B1A:IO_L15P_GC_LC_1
J23  B1B:VCCO_18  pas
J24  B1B:IO_L35N_LC_1
J25  BVCCAUX:VCCAUX21  pas
J26  B5A:IO_L17N_5
J27  B5A:IO_L11P_5
J28  BGNDD:GND150  pas
J29  B5A:IO_L20P_5
J30  B5B:IO_L27N_5
J31  B5B:IO_L30P_5
J32  B9A:IO_L9P_CC_LC_9
J33  B9B:VCCO_94  pas
J34  B9A:IO_L15P_9
J35  B9A:IO_L12N_VREF_9
J36  B9B:IO_L21P_9
J37  B9B:IO_L21N_9
J38  BGNDD:GND191  pas
J39  B9B:IO_L23N_VRP_9
K1  B14A:IO_L6N_14
K2  B14A:IO_L6P_14
K3  B14A:IO_L2N_14
K4  B14A:IO_L2P_14
K5  BGNDA:GND18  pas
K6  B10B:IO_L23N_VRP_10
K7  B10B:IO_L20P_10
K8  BVCCINTA:VCCINT2  pas
K9  B6B:IO_L32N_6
K10  B6B:VCCO_68  pas
K11  B6B:IO_L31P_6
K12  BVCCAUX:VCCAUX8  pas
K13  BGNDB:GND51  pas
K14  BVCCINTA:VCCINT27  pas
K15  BGNDB:GND67  pas
K16  B1B:IO_L2P_D29_LC_1
K17  B1B:IO_L36N_VREF_LC_1
K18  BVCCINTB:VCCINT59  pas
K19  B3:IO_L2N_GC_VRP_LC_3
K20  B3:VCCO_30  pas
K21  B3:IO_L8N_GC_LC_3
K22  BVCCAUX:VCCAUX19  pas
K23  B1B:IO_L33N_CC_LC_1
K24  B1B:IO_L35P_LC_1
K25  BGNDC:GND125  pas
K26  BVCCINTC:VCCINT104  pas
K27  BGNDC:GND143  pas
K28  BVCCINTC:VCCINT120  pas
K29  B5A:IO_L20N_VREF_5
K30  B5B:VCCO_58  pas
K31  B5B:IO_L30N_5
K32  B9A:IO_L9N_CC_LC_9
K33  B9A:IO_L17P_9
K34  B9A:IO_L15N_9
K35  BGNDD:GND179  pas
K36  B9B:IO_L22P_9
K37  B9B:IO_L27P_9
K38  B9B:IO_L27N_9
K39  B9B:IO_L30P_9
L1  B14A:IO_L10P_14
L2  BGNDA:GND6  pas
L3  B14A:IO_L7N_14
L4  B14A:IO_L7P_14
L5  B14A:IO_L5P_14
L6  B10B:IO_L29P_10
L7  B10B:VCCO_105  pas
L8  B10B:IO_L20N_VREF_10
L9  BVCCAUX:VCCAUX2  pas
L10  B6B:IO_L32P_6
L11  B6B:IO_L31N_6
L12  BGNDA:GND46  pas
L13  BVCCINTA:VCCINT20  pas
L14  BGNDB:GND59  pas
L15  BVCCINTA:VCCINT36  pas
L16  B1B:IO_L2N_D28_LC_1
L17  B1B:VCCO_19  pas
L18  B1A:IO_L20P_LC_1
L19  B3:IO_L6N_GC_LC_3
L20  B3:IO_L6P_GC_LC_3
L21  B3:IO_L8P_GC_LC_3
L22  BGNDC:GND109  pas
L23  BVCCINTB:VCCINT82  pas
L24  B1B:IO_L33P_CC_LC_1
L25  BVCCINTC:VCCINT95  pas
L26  BGNDC:GND134  pas
L27  B5B:VCCO_59  pas
L28  B5B:IO_L25N_CC_LC_5
L29  BVCCAUX:VCCAUX26  pas
L30  B5B:IO_L32P_5
L31  B5B:IO_L32N_5
L32  BGNDD:GND168  pas
L33  B9A:IO_L17N_9
L34  B9B:IO_L20P_9
L35  B9B:IO_L20N_VREF_9
L36  B9B:IO_L22N_9
L37  B9B:VCCO_95  pas
L38  B9B:IO_L31P_9
L39  B9B:IO_L30N_9
M1  B14A:IO_L10N_14
M2  B14A:IO_L8N_CC_LC_14
M3  B14A:IO_L8P_CC_LC_14
M4  B14B:VCCO_141  pas
M5  B14A:IO_L5N_14
M6  B10B:IO_L29N_10
M7  B10B:IO_L27N_10
M8  B10B:IO_L27P_10
M9  BGNDA:GND34  pas
M10  B10A:IO_L14P_10
M11  B10A:IO_L11P_10
M12  BVCCINTA:VCCINT15  pas
M13  BGNDB:GND52  pas
M14  BVCCINTA:VCCINT28  pas
M15  BGNDB:GND68  pas
M16  BVCCINTA:VCCINT45  pas
M17  B1B:IO_L34P_LC_1
M18  B1A:IO_L20N_VREF_LC_1
M19  BGNDB:GND93  pas
M20  B3:IO_L5N_GC_LC_3
M21  B3:IO_L5P_GC_LC_3
M22  B3:IO_L3N_GC_LC_3
M23  B1A:IO_L31N_LC_1
M24  B1B:VCCO_110  pas
M25  B1B:IO_L5P_D23_LC_1
M26  BVCCINTC:VCCINT105  pas
M27  B5A:IO_L25P_CC_LC_5
M28  BVCCINTC:VCCINT121  pas
M29  BGNDD:GND156  pas
M30  B9A:IO_L13P_9
M31  B9A:IO_L13N_9
M32  BVCCINTC:VCCINT135  pas
M33  B9B:IO_L24P_CC_LC_9
M34  B9B:VCCO_96  pas
M35  B9B:IO_L26P_9
M36  B9B:IO_L32P_9
M37  B9B:IO_L32N_9
M38  B9B:IO_L31N_9
M39  BGNDD:GND196  pas
N1  B14B:VCCO_142  pas
N2  B14A:IO_L13N_14
N3  B14A:IO_L13P_14
N4  B14A:IO_L9N_CC_LC_14
N5  B14A:IO_L9P_CC_LC_14
N6  BGNDA:GND22  pas
N7  B10B:IO_L30P_10
N8  B10B:IO_L28N_VREF_10
N9  BVCCINTA:VCCINT6  pas
N10  B10A:IO_L14N_10
N11  B10B:VCCO_106  pas
N12  B10A:IO_L11N_10
N13  BVCCINTA:VCCINT21  pas
N14  BGNDB:GND60  pas
N15  BVCCINTA:VCCINT37  pas
N16  BGNDB:GND76  pas
N17  B1B:IO_L34N_LC_1
N18  B1A:IO_L18N_VRP_LC_1
N19  BVCCINTB:VCCINT62  pas
N20  B3:IO_L1N_GC_CC_LC_3
N21  B3:VCCO_31  pas
N22  B3:IO_L3P_GC_LC_3
N23  B1A:IO_L31P_LC_1
N24  B1B:IO_L5N_D22_LC_1
N25  BVCCINTC:VCCINT96  pas
N26  BGNDC:GND135  pas
N27  BVCCINTC:VCCINT115  pas
N28  BGNDD:GND151  pas
N29  BVCCINTC:VCCINT125  pas
N30  B9A:IO_L19P_9
N31  B9B:VCCO_97  pas
N32  B9B:IO_L24N_CC_LC_9
N33  B9B:IO_L28P_9
N34  B9B:IO_L28N_VREF_9
N35  B9B:IO_L26N_9
N36  BGNDD:GND183  pas
N37  B13A:IO_L5P_13
N38  B13A:IO_L5N_13
N39  B13A:IO_L6P_13
P1  B14A:IO_L16N_14
P2  B14A:IO_L16P_14
P3  BGNDA:GND11  pas
P4  B14A:IO_L12N_VREF_14
P5  B14A:IO_L12P_14
P6  B14A:IO_L11P_14
P7  B10B:IO_L30N_10
P8  B10B:VCCO_107  pas
P9  B10B:IO_L28P_10
P10  BVCCAUX:VCCAUX4  pas
P11  B10B:IO_L25P_CC_LC_10
P12  B10A:IO_L19P_10
P13  BGNDB:GND53  pas
P14  BVCCINTA:VCCINT29  pas
P15  BGNDB:GND69  pas
P16  BVCCINTA:VCCINT46  pas
P17  B1A:IO_L32P_CC_LC_1
P18  B1B:VCCO_111  pas
P19  B1A:IO_L18P_VRN_LC_1
P20  B3:IO_L1P_GC_CC_LC_3
P21  B3:IO_L7N_GC_LC_3
P22  B3:IO_L7P_GC_LC_3
P23  BGNDC:GND114  pas
P24  BVCCINTB:VCCINT89  pas
P25  BGNDC:GND126  pas
P26  BVCCINTC:VCCINT106  pas
P27  BGNDC:GND144  pas
P28  B9B:VCCO_98  pas
P29  B9B:IO_L19N_9
P30  BVCCAUX:VCCAUX28  pas
P31  B9B:IO_L29P_9
P32  B9B:IO_L29N_9
P33  BGNDD:GND172  pas
P34  B13A:IO_L2P_13
P35  B13A:IO_L2N_13
P36  B13A:IO_L4P_13
P37  B13A:IO_L4N_VREF_13
P38  B13B:VCCO_131  pas
P39  B13A:IO_L6N_13
R1  B14B:IO_L20N_VREF_14
R2  B14B:IO_L20P_14
R3  B14A:IO_L18N_14
R4  B14A:IO_L18P_14
R5  B14B:VCCO_143  pas
R6  B14A:IO_L11N_14
R7  BVCCINTA:VCCINT0  pas
R8  B10B:IO_L31N_10
R9  B10B:IO_L31P_10
R10  BGNDA:GND38  pas
R11  B10B:IO_L25N_CC_LC_10
R12  B10B:IO_L19N_10
R13  BVCCINTA:VCCINT22  pas
R14  B10A:IO_L17P_10
R15  B10B:VCCO_108  pas
R16  B10A:IO_L13P_10
R17  B1B:IO_L32N_CC_LC_1
R18  B1A:IO_L30N_LC_1
R19  BVCCINTB:VCCINT63  pas
R20  BGNDB:GND99  pas
R21  BVCCINTB:VCCINT72  pas
R22  B1B:IO_L7N_D18_LC_1
R23  BVCCINTB:VCCINT83  pas
R24  BGNDC:GND119  pas
R25  BVCCINTC:VCCINT97  pas
R26  BGNDC:GND136  pas
R27  BVCCINTC:VCCINT116  pas
R28  B9B:IO_L25P_CC_LC_9
R29  B9B:IO_L25N_CC_LC_9
R30  BGNDD:GND160  pas
R31  B13A:IO_L1P_13
R32  B13A:IO_L1N_13
R33  BVCCINTC:VCCINT138  pas
R34  B13A:IO_L7P_13
R35  B13B:VCCO_132  pas
R36  B13A:IO_L9P_CC_LC_13
R37  B13A:IO_L11P_13
R38  B13A:IO_L11N_13
R39  B13A:IO_L12P_13
T1  B14B:IO_L25P_CC_LC_14
T2  B14B:VCCO_144  pas
T3  B14B:IO_L21N_14
T4  B14B:IO_L21P_14
T5  B14B:IO_L19N_14
T6  B14A:IO_L19P_14
T7  BGNDA:GND26  pas
T8  B14A:IO_L15P_14
T9  B14A:IO_L17N_14
T10  BVCCINTA:VCCINT9  pas
T11  B10B:IO_L32N_10
T12  B10B:VCCO_109  pas
T13  B10B:IO_L26P_10
T14  B10A:IO_L17N_10
T15  B10A:IO_L13N_10
T16  BVCCINTB:VCCINT47  pas
T17  BGNDB:GND83  pas
T18  B1A:IO_L30P_LC_1
T19  B1A:IO_L16N_GC_CC_LC_1
T20  B1A:IO_L16P_GC_CC_LC_1
T21  BGNDC:GND103  pas
T22  B1B:VCCO_112  pas
T23  B1B:IO_L7P_D19_LC_1
T24  BVCCINTB:VCCINT90  pas
T25  BGNDC:GND127  pas
T26  BVCCINTC:VCCINT107  pas
T27  BGNDC:GND145  pas
T28  BVCCINTC:VCCINT122  pas
T29  B13A:IO_L3P_13
T30  BVCCINTC:VCCINT129  pas
T31  B13A:IO_L8P_CC_LC_13
T32  B13B:VCCO_133  pas
T33  B13A:IO_L10P_13
T34  B13A:IO_L7N_13
T35  B13A:IO_L15P_13
T36  B13A:IO_L9N_CC_LC_13
T37  BGNDD:GND187  pas
T38  B13A:IO_L17P_13
T39  B13A:IO_L12N_VREF_13
U1  B14B:IO_L25N_CC_LC_14
U2  B14B:IO_L26N_14
U3  B14B:IO_L26P_14
U4  BGNDA:GND15  pas
U5  B14B:IO_L24P_CC_LC_14
U6  B14B:IO_L22N_14
U7  B14B:IO_L22P_14
U8  B14A:IO_L15N_14
U9  B14B:VCCO_145  pas
U10  B14A:IO_L17P_14
U11  BVCCAUX:VCCAUX6  pas
U12  B10B:IO_L32P_10
U13  B10B:IO_L26N_10
U14  BGNDB:GND61  pas
U15  BVCCINTA:VCCINT38  pas
U16  BGNDB:GND77  pas
U17  BVCCINTB:VCCINT53  pas
U18  B1A:IO_L28N_VREF_LC_1
U19  B1B:VCCO_113  pas
U20  B1A:IO_L28P_LC_1
U21  BVCCINTB:VCCINT73  pas
U22  BGNDC:GND110  pas
U23  BVCCINTB:VCCINT84  pas
U24  BGNDC:GND120  pas
U25  BVCCINTC:VCCINT98  pas
U26  B13A:IO_L13N_13
U27  B13A:IO_L14N_13
U28  B13A:IO_L3N_13
U29  B13B:VCCO_134  pas
U30  B13A:IO_L8N_CC_LC_13
U31  BVCCAUX:VCCAUX30  pas
U32  B13A:IO_L10N_13
U33  B13A:IO_L16P_13
U34  BGNDD:GND176  pas
U35  B13A:IO_L15N_13
U36  B13A:IO_L19P_13
U37  B13B:IO_L19N_13
U38  B13A:IO_L17N_13
U39  B13B:VCCO_135  pas
V1  BGNDA:GND2  pas
V2  B16A:IO_L2N_16
V3  B16A:IO_L2P_16
V4  B16A:IO_L1P_16
V5  B14B:IO_L24N_CC_LC_14
V6  B14B:VCCO_146  pas
V7  B14B:IO_L27P_14
V8  BVCCINTA:VCCINT3  pas
V9  B14B:IO_L23N_VRP_14
V10  B14B:IO_L23P_VRN_14
V11  BGNDA:GND42  pas
V12  B14A:IO_L14N_14
V13  B14A:IO_L14P_14
V14  BVCCINTA:VCCINT30  pas
V15  BGNDB:GND70  pas
V16  BVCCINTB:VCCINT48  pas
V17  BGNDB:GND84  pas
V18  BVCCINTB:VCCINT60  pas
V19  BGNDB:GND94  pas
V20  BVCCINTB:VCCINT68  pas
V21  BGNDC:GND104  pas
V22  BVCCINTB:VCCINT77  pas
V23  B:HSWAPEN_0
V24  B:INIT_0
V25  B13A:IO_L13P_13
V26  B13B:VCCO_136  pas
V27  B13A:IO_L14P_13
V28  BVCCINTC:VCCINT123  pas
V29  B13A:IO_L18P_13
V30  B13A:IO_L18N_13
V31  BGNDD:GND164  pas
V32  B13B:IO_L20P_13
V33  B13A:IO_L16N_13
V34  B13B:IO_L22P_13
V35  B13B:IO_L22N_13
V36  B13B:VCCO_137  pas
V37  B13B:IO_L23P_VRN_13
V38  B13B:IO_L23N_VRP_13
V39  B13B:IO_L24P_CC_LC_13
W1  B16A:IO_L3N_16
W2  B16A:IO_L3P_16
W3  B16B:VCCO_168  pas
W4  B16A:IO_L1N_16
W5  B14B:IO_L29N_14
W6  B14B:IO_L29P_14
W7  B14B:IO_L27N_14
W8  BGNDA:GND30  pas
W9  B14B:IO_L28N_VREF_14
W10  B14B:IO_L28P_14
W11  BVCCINTA:VCCINT13  pas
W12  B14B:IO_L32N_14
W13  B14B:VCCO_147  pas
W14  BGNDB:GND62  pas
W15  BVCCINTA:VCCINT39  pas
W16  BGNDB:GND78  pas
W17  BVCCINTB:VCCINT54  pas
W18  BGNDB:GND88  pas
W19  BVCCINTB:VCCINT64  pas
W20  B:CCLK_0
W21  BVCCAUX:VCCAUX18  pas
W22  B:PROGRAM_B_0
W23  B0:VCCO_01  pas
W24  B:VBATT_0
W25  BVCCINTC:VCCINT99  pas
W26  B13B:IO_L21P_13
W27  B13B:IO_L21N_13
W28  BGNDD:GND152  pas
W29  B15A:IO_L2P_15
W30  B15A:IO_L2N_15
W31  BVCCINTC:VCCINT132  pas
W32  B13B:IO_L20N_VREF_13
W33  B13B:VCCO_138  pas
W34  B13B:IO_L25P_CC_LC_13
W35  B13B:IO_L25N_CC_LC_13
W36  B13B:IO_L26P_13
W37  B13B:IO_L26N_13
W38  BGNDD:GND192  pas
W39  B13B:IO_L24N_CC_LC_13
Y1  B16A:IO_L8P_CC_LC_16
Y2  B16A:IO_L6N_16
Y3  B16A:IO_L6P_16
Y4  B16A:IO_L5P_16
Y5  BGNDA:GND19  pas
Y6  B16A:IO_L4N_VREF_16
Y7  B16A:IO_L4P_16
Y8  BVCCAUX:VCCAUX1  pas
Y9  B14B:IO_L30N_14
Y10  B14B:VCCO_148  pas
Y11  B14B:IO_L31N_14
Y12  BVCCAUX:VCCAUX9  pas
Y13  B14B:IO_L32P_14
Y14  BVCCINTA:VCCINT31  pas
Y15  BGNDB:GND71  pas
Y16  B:D_IN_0
Y17  B:CS_B_0
Y18  B:RDWR_B_0
Y19  B:DONE_0
Y20  B0:VCCO_02  pas
Y21  B:PWRDWN_B_0
Y22  B:M2_0
Y23  B:M0_0
Y24  B:M1_0
Y25  BGNDC:GND128  pas
Y26  BVCCINTC:VCCINT108  pas
Y27  B15A:IO_L1P_15
Y28  BVCCAUX:VCCAUX24  pas
Y29  B15A:IO_L4P_15
Y30  B15B:VCCO_158  pas
Y31  B15A:IO_L6N_15
Y32  BVCCAUX:VCCAUX32  pas
Y33  B13B:IO_L30P_13
Y34  B13B:IO_L30N_13
Y35  BGNDD:GND180  pas
Y36  B13B:IO_L29N_13
Y37  B13B:IO_L27P_13
Y38  B13B:IO_L27N_13
Y39  B13B:IO_L28P_13

## Footprint FF1513 (pad centres in mm)
smd 0.45 x 0.45: A2 -18,19; A3 -17,19; A4 -16,19; A5 -15,19; A6 -14,19; A7 -13,19; A8 -12,19; A9 -11,19; A10 -10,19; A11 -9,19; A12 -8,19; A13 -7,19; A14 -6,19; A15 -5,19; A16 -4,19; A17 -3,19; A18 -2,19; A19 -1,19; A20 0,19; A21 1,19; A22 2,19; A23 3,19; A24 4,19; A25 5,19; A26 6,19; A27 7,19; A28 8,19; A29 9,19; A30 10,19; A31 11,19; A32 12,19; A33 13,19; A34 14,19; A35 15,19; A36 16,19; A37 17,19; A38 18,19; AA1 -19,-1; AA2 -18,-1; AA3 -17,-1; AA4 -16,-1; AA5 -15,-1; AA6 -14,-1; AA7 -13,-1; AA8 -12,-1; AA9 -11,-1; AA10 -10,-1; AA11 -9,-1; AA12 -8,-1; AA13 -7,-1; AA14 -6,-1; AA15 -5,-1; AA16 -4,-1; AA17 -3,-1; AA18 -2,-1; AA19 -1,-1; AA20 0,-1; AA21 1,-1; AA22 2,-1; AA23 3,-1; AA24 4,-1; AA25 5,-1; AA26 6,-1; AA27 7,-1; AA28 8,-1; AA29 9,-1; AA30 10,-1; AA31 11,-1; AA32 12,-1; AA33 13,-1; AA34 14,-1; AA35 15,-1; AA36 16,-1; AA37 17,-1; AA38 18,-1; AA39 19,-1; AB1 -19,-2; AB2 -18,-2; AB3 -17,-2; AB4 -16,-2; AB5 -15,-2; AB6 -14,-2; AB7 -13,-2; AB8 -12,-2; AB9 -11,-2; AB10 -10,-2; AB11 -9,-2; AB12 -8,-2; AB13 -7,-2; AB14 -6,-2; AB15 -5,-2; AB16 -4,-2; AB17 -3,-2; AB18 -2,-2; AB19 -1,-2; AB20 0,-2; AB21 1,-2; AB22 2,-2; AB23 3,-2; AB24 4,-2; AB25 5,-2; AB26 6,-2; AB27 7,-2; AB28 8,-2; AB29 9,-2; AB30 10,-2; AB31 11,-2; AB32 12,-2; AB33 13,-2; AB34 14,-2; AB35 15,-2; AB36 16,-2; AB37 17,-2; AB38 18,-2; AB39 19,-2; AC1 -19,-3; AC2 -18,-3; AC3 -17,-3; AC4 -16,-3; AC5 -15,-3; AC6 -14,-3; AC7 -13,-3; AC8 -12,-3; AC9 -11,-3; AC10 -10,-3; AC11 -9,-3; AC12 -8,-3; AC13 -7,-3; AC14 -6,-3; AC15 -5,-3; AC16 -4,-3; AC17 -3,-3; AC18 -2,-3; AC19 -1,-3; AC20 0,-3; AC21 1,-3; AC22 2,-3; AC23 3,-3; AC24 4,-3; AC25 5,-3; AC26 6,-3; AC27 7,-3; AC28 8,-3; AC29 9,-3; AC30 10,-3; AC31 11,-3; AC32 12,-3; AC33 13,-3; AC34 14,-3; AC35 15,-3; AC36 16,-3; AC37 17,-3; AC38 18,-3; AC39 19,-3; AD1 -19,-4; AD2 -18,-4; AD3 -17,-4; AD4 -16,-4; AD5 -15,-4; AD6 -14,-4; AD7 -13,-4; AD8 -12,-4; AD9 -11,-4; AD10 -10,-4; AD11 -9,-4; AD12 -8,-4; AD13 -7,-4; AD14 -6,-4; AD15 -5,-4; AD16 -4,-4; AD17 -3,-4; AD18 -2,-4; AD19 -1,-4; AD20 0,-4; AD21 1,-4; AD22 2,-4; AD23 3,-4; AD24 4,-4; AD25 5,-4; AD26 6,-4; AD27 7,-4; AD28 8,-4; AD29 9,-4; AD30 10,-4; AD31 11,-4; AD32 12,-4; AD33 13,-4; AD34 14,-4; AD35 15,-4; AD36 16,-4; AD37 17,-4; AD38 18,-4; AD39 19,-4; AE1 -19,-5; AE2 -18,-5; AE3 -17,-5; AE4 -16,-5; AE5 -15,-5; AE6 -14,-5; AE7 -13,-5; AE8 -12,-5; AE9 -11,-5; AE10 -10,-5; AE11 -9,-5; AE12 -8,-5; AE13 -7,-5; AE14 -6,-5; AE15 -5,-5; AE16 -4,-5; AE17 -3,-5; AE18 -2,-5; AE19 -1,-5; AE20 0,-5; AE21 1,-5; AE22 2,-5; AE23 3,-5; AE24 4,-5; AE25 5,-5; AE26 6,-5; AE27 7,-5; AE28 8,-5; AE29 9,-5; AE30 10,-5; AE31 11,-5; AE32 12,-5; AE33 13,-5; AE34 14,-5; AE35 15,-5; AE36 16,-5; AE37 17,-5; AE38 18,-5; AE39 19,-5; AF1 -19,-6; AF2 -18,-6; AF3 -17,-6; AF4 -16,-6; AF5 -15,-6; AF6 -14,-6; AF7 -13,-6; AF8 -12,-6; AF9 -11,-6; AF10 -10,-6; AF11 -9,-6; AF12 -8,-6; AF13 -7,-6; AF14 -6,-6; AF15 -5,-6; AF16 -4,-6; AF17 -3,-6; AF18 -2,-6; AF19 -1,-6; AF20 0,-6; AF21 1,-6; AF22 2,-6; AF23 3,-6; AF24 4,-6; AF25 5,-6; AF26 6,-6; AF27 7,-6; AF28 8,-6; AF29 9,-6; AF30 10,-6; AF31 11,-6; AF32 12,-6; AF33 13,-6; AF34 14,-6; AF35 15,-6; AF36 16,-6; AF37 17,-6; AF38 18,-6; AF39 19,-6; AG1 -19,-7; AG2 -18,-7; AG3 -17,-7; AG4 -16,-7; AG5 -15,-7; AG6 -14,-7; AG7 -13,-7; AG8 -12,-7; AG9 -11,-7; AG10 -10,-7; AG11 -9,-7; AG12 -8,-7; AG13 -7,-7; AG14 -6,-7; AG15 -5,-7; AG16 -4,-7; AG17 -3,-7; AG18 -2,-7; AG19 -1,-7; AG20 0,-7; AG21 1,-7; AG22 2,-7; AG23 3,-7; AG24 4,-7; AG25 5,-7; AG26 6,-7; AG27 7,-7; AG28 8,-7; AG29 9,-7; AG30 10,-7; AG31 11,-7; AG32 12,-7; AG33 13,-7; AG34 14,-7; AG35 15,-7; AG36 16,-7; AG37 17,-7; AG38 18,-7; AG39 19,-7; AH1 -19,-8; AH2 -18,-8; AH3 -17,-8; AH4 -16,-8; AH5 -15,-8; AH6 -14,-8; AH7 -13,-8; AH8 -12,-8; AH9 -11,-8; AH10 -10,-8; AH11 -9,-8; AH12 -8,-8; AH13 -7,-8; AH14 -6,-8; AH15 -5,-8; AH16 -4,-8; AH17 -3,-8; AH18 -2,-8; AH19 -1,-8; AH20 0,-8; AH21 1,-8; AH22 2,-8; AH23 3,-8; AH24 4,-8; AH25 5,-8; AH26 6,-8; AH27 7,-8; AH28 8,-8; AH29 9,-8; AH30 10,-8; AH31 11,-8; AH32 12,-8; AH33 13,-8; AH34 14,-8; AH35 15,-8; AH36 16,-8; AH37 17,-8; AH38 18,-8; AH39 19,-8; AJ1 -19,-9; AJ2 -18,-9; AJ3 -17,-9; AJ4 -16,-9; AJ5 -15,-9; AJ6 -14,-9; AJ7 -13,-9; AJ8 -12,-9; AJ9 -11,-9; AJ10 -10,-9; AJ11 -9,-9; AJ12 -8,-9; AJ13 -7,-9; AJ14 -6,-9; AJ15 -5,-9; AJ16 -4,-9; AJ17 -3,-9; AJ18 -2,-9; AJ19 -1,-9; AJ20 0,-9; AJ21 1,-9; AJ22 2,-9; AJ23 3,-9; AJ24 4,-9; AJ25 5,-9; AJ26 6,-9; AJ27 7,-9; AJ28 8,-9; AJ29 9,-9; AJ30 10,-9; AJ31 11,-9; AJ32 12,-9; AJ33 13,-9; AJ34 14,-9; AJ35 15,-9; AJ36 16,-9; AJ37 17,-9; AJ38 18,-9; AJ39 19,-9; AK1 -19,-10; AK2 -18,-10; AK3 -17,-10; AK4 -16,-10; AK5 -15,-10; AK6 -14,-10; AK7 -13,-10; AK8 -12,-10; AK9 -11,-10; AK10 -10,-10; AK11 -9,-10; AK12 -8,-10; AK13 -7,-10; AK14 -6,-10; AK15 -5,-10; AK16 -4,-10; AK17 -3,-10; AK18 -2,-10; AK19 -1,-10; AK20 0,-10; AK21 1,-10; AK22 2,-10; AK23 3,-10; AK24 4,-10; AK25 5,-10; AK26 6,-10; AK27 7,-10; AK28 8,-10; AK29 9,-10; AK30 10,-10; AK31 11,-10; AK32 12,-10; AK33 13,-10; AK34 14,-10; AK35 15,-10; AK36 16,-10; AK37 17,-10; AK38 18,-10; AK39 19,-10; AL1 -19,-11; AL2 -18,-11; AL3 -17,-11; AL4 -16,-11; AL5 -15,-11; AL6 -14,-11; AL7 -13,-11; AL8 -12,-11; AL9 -11,-11; AL10 -10,-11; AL11 -9,-11; AL12 -8,-11; AL13 -7,-11; AL14 -6,-11; AL15 -5,-11; AL16 -4,-11; AL17 -3,-11; AL18 -2,-11; AL19 -1,-11; AL20 0,-11; AL21 1,-11; AL22 2,-11; AL23 3,-11; AL24 4,-11; AL25 5,-11; AL26 6,-11; AL27 7,-11; AL28 8,-11; AL29 9,-11; AL30 10,-11; AL31 11,-11; AL32 12,-11; AL33 13,-11; AL34 14,-11; AL35 15,-11; AL36 16,-11; AL37 17,-11; AL38 18,-11; AL39 19,-11; AM1 -19,-12; AM2 -18,-12; AM3 -17,-12; AM4 -16,-12; AM5 -15,-12; AM6 -14,-12; AM7 -13,-12; AM8 -12,-12; AM9 -11,-12; AM10 -10,-12; AM11 -9,-12; AM12 -8,-12; AM13 -7,-12; AM14 -6,-12; AM15 -5,-12; AM16 -4,-12; AM17 -3,-12; AM18 -2,-12; AM19 -1,-12; AM20 0,-12; AM21 1,-12; AM22 2,-12; AM23 3,-12; AM24 4,-12; AM25 5,-12; AM26 6,-12; AM27 7,-12; AM28 8,-12; AM29 9,-12; AM30 10,-12; AM31 11,-12; AM32 12,-12; AM33 13,-12; AM34 14,-12; AM35 15,-12; AM36 16,-12; AM37 17,-12; AM38 18,-12; AM39 19,-12; AN1 -19,-13; AN2 -18,-13; AN3 -17,-13; AN4 -16,-13; AN5 -15,-13; AN6 -14,-13; AN7 -13,-13; AN8 -12,-13; AN9 -11,-13; AN10 -10,-13; AN11 -9,-13; AN12 -8,-13; AN13 -7,-13; AN14 -6,-13; AN15 -5,-13; AN16 -4,-13; AN17 -3,-13; AN18 -2,-13; AN19 -1,-13; AN20 0,-13; AN21 1,-13; AN22 2,-13; AN23 3,-13; AN24 4,-13; AN25 5,-13; AN26 6,-13; AN27 7,-13; AN28 8,-13; AN29 9,-13; AN30 10,-13; AN31 11,-13; AN32 12,-13; AN33 13,-13; AN34 14,-13; AN35 15,-13; AN36 16,-13; AN37 17,-13; AN38 18,-13; AN39 19,-13; AP1 -19,-14; AP2 -18,-14; AP3 -17,-14; AP4 -16,-14; AP5 -15,-14; AP6 -14,-14; AP7 -13,-14; AP8 -12,-14; AP9 -11,-14; AP10 -10,-14; AP11 -9,-14; AP12 -8,-14; AP13 -7,-14; AP14 -6,-14; AP15 -5,-14; AP16 -4,-14; AP17 -3,-14; AP18 -2,-14; AP19 -1,-14; AP20 0,-14; AP21 1,-14; AP22 2,-14; AP23 3,-14; AP24 4,-14; AP25 5,-14; AP26 6,-14; AP27 7,-14; AP28 8,-14; AP29 9,-14; AP30 10,-14; AP31 11,-14; AP32 12,-14; AP33 13,-14; AP34 14,-14; AP35 15,-14; AP36 16,-14; AP37 17,-14; AP38 18,-14; AP39 19,-14; AR1 -19,-15; AR2 -18,-15; AR3 -17,-15; AR4 -16,-15; AR5 -15,-15; AR6 -14,-15; AR7 -13,-15; AR8 -12,-15; AR9 -11,-15; AR10 -10,-15; AR11 -9,-15; AR12 -8,-15; AR13 -7,-15; AR14 -6,-15; AR15 -5,-15; AR16 -4,-15; AR17 -3,-15; AR18 -2,-15; AR19 -1,-15; AR20 0,-15; AR21 1,-15; AR22 2,-15; AR23 3,-15; AR24 4,-15; AR25 5,-15; AR26 6,-15; AR27 7,-15; AR28 8,-15; AR29 9,-15; AR30 10,-15; AR31 11,-15; AR32 12,-15; AR33 13,-15; AR34 14,-15; AR35 15,-15; AR36 16,-15; AR37 17,-15; AR38 18,-15; AR39 19,-15; AT1 -19,-16; AT2 -18,-16; AT3 -17,-16; AT4 -16,-16; AT5 -15,-16; AT6 -14,-16; AT7 -13,-16; AT8 -12,-16; AT9 -11,-16; AT10 -10,-16; AT11 -9,-16; AT12 -8,-16; AT13 -7,-16; AT14 -6,-16; AT15 -5,-16; AT16 -4,-16; AT17 -3,-16; AT18 -2,-16; AT19 -1,-16; AT20 0,-16; AT21 1,-16; AT22 2,-16; AT23 3,-16; AT24 4,-16; AT25 5,-16; AT26 6,-16; AT27 7,-16; AT28 8,-16; AT29 9,-16; AT30 10,-16; AT31 11,-16; AT32 12,-16; AT33 13,-16; AT34 14,-16; AT35 15,-16; AT36 16,-16; AT37 17,-16; AT38 18,-16; AT39 19,-16; AU1 -19,-17; AU2 -18,-17; AU3 -17,-17; AU4 -16,-17; AU5 -15,-17; AU6 -14,-17; AU7 -13,-17; AU8 -12,-17; AU9 -11,-17; AU10 -10,-17; AU11 -9,-17; AU12 -8,-17; AU13 -7,-17; AU14 -6,-17; AU15 -5,-17; AU16 -4,-17; AU17 -3,-17; AU18 -2,-17; AU19 -1,-17; AU20 0,-17; AU21 1,-17; AU22 2,-17; AU23 3,-17; AU24 4,-17; AU25 5,-17; AU26 6,-17; AU27 7,-17; AU28 8,-17; AU29 9,-17; AU30 10,-17; AU31 11,-17; AU32 12,-17; AU33 13,-17; AU34 14,-17; AU35 15,-17; AU36 16,-17; AU37 17,-17; AU38 18,-17; AU39 19,-17; AV1 -19,-18; AV3 -17,-18; AV4 -16,-18; AV5 -15,-18; AV6 -14,-18; AV7 -13,-18; AV8 -12,-18; AV9 -11,-18; AV10 -10,-18; AV11 -9,-18; AV12 -8,-18; AV13 -7,-18; AV14 -6,-18; AV15 -5,-18; AV16 -4,-18; AV17 -3,-18; AV18 -2,-18; AV19 -1,-18; AV20 0,-18; AV21 1,-18; AV22 2,-18; AV23 3,-18; AV24 4,-18; AV25 5,-18; AV26 6,-18; AV27 7,-18; AV28 8,-18; AV29 9,-18; AV30 10,-18; AV31 11,-18; AV32 12,-18; AV33 13,-18; AV34 14,-18; AV35 15,-18; AV36 16,-18; AV37 17,-18; AV39 19,-18; AW2 -18,-19; AW3 -17,-19; AW4 -16,-19; AW5 -15,-19; AW6 -14,-19; AW7 -13,-19; AW8 -12,-19; AW9 -11,-19; AW10 -10,-19; AW11 -9,-19; AW12 -8,-19; AW13 -7,-19; AW14 -6,-19; AW15 -5,-19; AW16 -4,-19; AW17 -3,-19; AW18 -2,-19; AW19 -1,-19; AW20 0,-19; AW21 1,-19; AW22 2,-19; AW23 3,-19; AW24 4,-19; AW25 5,-19; AW26 6,-19; AW27 7,-19; AW28 8,-19; AW29 9,-19; AW30 10,-19; AW31 11,-19; AW32 12,-19; AW33 13,-19; AW34 14,-19; AW35 15,-19; AW36 16,-19; AW37 17,-19; AW38 18,-19; B1 -19,18; B3 -17,18; B4 -16,18; B5 -15,18; B6 -14,18; B7 -13,18; B8 -12,18; B9 -11,18; B10 -10,18; B11 -9,18; B12 -8,18; B13 -7,18; B14 -6,18; B15 -5,18; B16 -4,18; B17 -3,18; B18 -2,18; B19 -1,18; B20 0,18; B21 1,18; B22 2,18; B23 3,18; B24 4,18; B25 5,18; B26 6,18; B27 7,18; B28 8,18; B29 9,18; B30 10,18; B31 11,18; B32 12,18; B33 13,18; B34 14,18; B35 15,18; B36 16,18; B37 17,18; B39 19,18; C1 -19,17; C2 -18,17; C3 -17,17; C4 -16,17; C5 -15,17; C6 -14,17; C7 -13,17; C8 -12,17; C9 -11,17; C10 -10,17; C11 -9,17; C12 -8,17; C13 -7,17; C14 -6,17; C15 -5,17; C16 -4,17; C17 -3,17; C18 -2,17; C19 -1,17; C20 0,17; C21 1,17; C22 2,17; C23 3,17; C24 4,17; C25 5,17; C26 6,17; C27 7,17; C28 8,17; C29 9,17; C30 10,17; C31 11,17; C32 12,17; C33 13,17; C34 14,17; C35 15,17; C36 16,17; C37 17,17; C38 18,17; C39 19,17; D1 -19,16; D2 -18,16; D3 -17,16; D4 -16,16; D5 -15,16; D6 -14,16; D7 -13,16; D8 -12,16; D9 -11,16; D10 -10,16; D11 -9,16; D12 -8,16; D13 -7,16; D14 -6,16; D15 -5,16; D16 -4,16; D17 -3,16; D18 -2,16; D19 -1,16; D20 0,16; D21 1,16; D22 2,16; D23 3,16; D24 4,16; D25 5,16; D26 6,16; D27 7,16; D28 8,16; D29 9,16; D30 10,16; D31 11,16; D32 12,16; D33 13,16; D34 14,16; D35 15,16; D36 16,16; D37 17,16; D38 18,16; D39 19,16; E1 -19,15; E2 -18,15; E3 -17,15; E4 -16,15; E5 -15,15; E6 -14,15; E7 -13,15; E8 -12,15; E9 -11,15; E10 -10,15; E11 -9,15; E12 -8,15; E13 -7,15; E14 -6,15; E15 -5,15; E16 -4,15; E17 -3,15; E18 -2,15; E19 -1,15; E20 0,15; E21 1,15; E22 2,15; E23 3,15; E24 4,15; E25 5,15; E26 6,15; E27 7,15; E28 8,15; E29 9,15; E30 10,15; E31 11,15; E32 12,15; E33 13,15; E34 14,15; E35 15,15; E36 16,15; E37 17,15; E38 18,15; E39 19,15; F1 -19,14; F2 -18,14; F3 -17,14; F4 -16,14; F5 -15,14; F6 -14,14; F7 -13,14; F8 -12,14; F9 -11,14; F10 -10,14; F11 -9,14; F12 -8,14; F13 -7,14; F14 -6,14; F15 -5,14; F16 -4,14; F17 -3,14; F18 -2,14; F19 -1,14; F20 0,14; F21 1,14; F22 2,14; F23 3,14; F24 4,14; F25 5,14; F26 6,14; F27 7,14; F28 8,14; F29 9,14; F30 10,14; F31 11,14; F32 12,14; F33 13,14; F34 14,14; F35 15,14; F36 16,14; F37 17,14; F38 18,14; F39 19,14; G1 -19,13; G2 -18,13; G3 -17,13; G4 -16,13; G5 -15,13; G6 -14,13; G7 -13,13; G8 -12,13; G9 -11,13; G10 -10,13; G11 -9,13; G12 -8,13; G13 -7,13; G14 -6,13; G15 -5,13; G16 -4,13; G17 -3,13; G18 -2,13; G19 -1,13; G20 0,13; G21 1,13; G22 2,13; G23 3,13; G24 4,13; G25 5,13; G26 6,13; G27 7,13; G28 8,13; G29 9,13; G30 10,13; G31 11,13; G32 12,13; G33 13,13; G34 14,13; G35 15,13; G36 16,13; G37 17,13; G38 18,13; G39 19,13; H1 -19,12; H2 -18,12; H3 -17,12; H4 -16,12; H5 -15,12; H6 -14,12; H7 -13,12; H8 -12,12; H9 -11,12; H10 -10,12; H11 -9,12; H12 -8,12; H13 -7,12; H14 -6,12; H15 -5,12; H16 -4,12; H17 -3,12; H18 -2,12; H19 -1,12; H20 0,12; H21 1,12; H22 2,12; H23 3,12; H24 4,12; H25 5,12; H26 6,12; H27 7,12; H28 8,12; H29 9,12; H30 10,12; H31 11,12; H32 12,12; H33 13,12; H34 14,12; H35 15,12; H36 16,12; H37 17,12; H38 18,12; H39 19,12; J1 -19,11; J2 -18,11; J3 -17,11; J4 -16,11; J5 -15,11; J6 -14,11; J7 -13,11; J8 -12,11; J9 -11,11; J10 -10,11; J11 -9,11; J12 -8,11; J13 -7,11; J14 -6,11; J15 -5,11; J16 -4,11; J17 -3,11; J18 -2,11; J19 -1,11; J20 0,11; J21 1,11; J22 2,11; J23 3,11; J24 4,11; J25 5,11; J26 6,11; J27 7,11; J28 8,11; J29 9,11; J30 10,11; J31 11,11; J32 12,11; J33 13,11; J34 14,11; J35 15,11; J36 16,11; J37 17,11; J38 18,11; J39 19,11; K1 -19,10; K2 -18,10; K3 -17,10; K4 -16,10; K5 -15,10; K6 -14,10; K7 -13,10; K8 -12,10; K9 -11,10; K10 -10,10; K11 -9,10; K12 -8,10; K13 -7,10; K14 -6,10; K15 -5,10; K16 -4,10; K17 -3,10; K18 -2,10; K19 -1,10; K20 0,10; K21 1,10; K22 2,10; K23 3,10; K24 4,10; K25 5,10; K26 6,10; K27 7,10; K28 8,10; K29 9,10; K30 10,10; K31 11,10; K32 12,10; K33 13,10; K34 14,10; K35 15,10; K36 16,10; K37 17,10; K38 18,10; K39 19,10; L1 -19,9; L2 -18,9; L3 -17,9; L4 -16,9; L5 -15,9; L6 -14,9; L7 -13,9; L8 -12,9; L9 -11,9; L10 -10,9; L11 -9,9; L12 -8,9; L13 -7,9; L14 -6,9; L15 -5,9; L16 -4,9; L17 -3,9; L18 -2,9; L19 -1,9; L20 0,9; L21 1,9; L22 2,9; L23 3,9; L24 4,9; L25 5,9; L26 6,9; L27 7,9; L28 8,9; L29 9,9; L30 10,9; L31 11,9; L32 12,9; L33 13,9; L34 14,9; L35 15,9; L36 16,9; L37 17,9; L38 18,9; L39 19,9; M1 -19,8; M2 -18,8; M3 -17,8; M4 -16,8; M5 -15,8; M6 -14,8; M7 -13,8; M8 -12,8; M9 -11,8; M10 -10,8; M11 -9,8; M12 -8,8; M13 -7,8; M14 -6,8; M15 -5,8; M16 -4,8; M17 -3,8; M18 -2,8; M19 -1,8; M20 0,8; M21 1,8; M22 2,8; M23 3,8; M24 4,8; M25 5,8; M26 6,8; M27 7,8; M28 8,8; M29 9,8; M30 10,8; M31 11,8; M32 12,8; M33 13,8; M34 14,8; M35 15,8; M36 16,8; M37 17,8; M38 18,8; M39 19,8; N1 -19,7; N2 -18,7; N3 -17,7; N4 -16,7; N5 -15,7; N6 -14,7; N7 -13,7; N8 -12,7; N9 -11,7; N10 -10,7; N11 -9,7; N12 -8,7; N13 -7,7; N14 -6,7; N15 -5,7; N16 -4,7; N17 -3,7; N18 -2,7; N19 -1,7; N20 0,7; N21 1,7; N22 2,7; N23 3,7; N24 4,7; N25 5,7; N26 6,7; N27 7,7; N28 8,7; N29 9,7; N30 10,7; N31 11,7; N32 12,7; N33 13,7; N34 14,7; N35 15,7; N36 16,7; N37 17,7; N38 18,7; N39 19,7; P1 -19,6; P2 -18,6; P3 -17,6; P4 -16,6; P5 -15,6; P6 -14,6; P7 -13,6; P8 -12,6; P9 -11,6; P10 -10,6; P11 -9,6; P12 -8,6; P13 -7,6; P14 -6,6; P15 -5,6; P16 -4,6; P17 -3,6; P18 -2,6; P19 -1,6; P20 0,6; P21 1,6; P22 2,6; P23 3,6; P24 4,6; P25 5,6; P26 6,6; P27 7,6; P28 8,6; P29 9,6; P30 10,6; P31 11,6; P32 12,6; P33 13,6; P34 14,6; P35 15,6; P36 16,6; P37 17,6; P38 18,6; P39 19,6; R1 -19,5; R2 -18,5; R3 -17,5; R4 -16,5; R5 -15,5; R6 -14,5; R7 -13,5; R8 -12,5; R9 -11,5; R10 -10,5; R11 -9,5; R12 -8,5; R13 -7,5; R14 -6,5; R15 -5,5; R16 -4,5; R17 -3,5; R18 -2,5; R19 -1,5; R20 0,5; R21 1,5; R22 2,5; R23 3,5; R24 4,5; R25 5,5; R26 6,5; R27 7,5; R28 8,5; R29 9,5; R30 10,5; R31 11,5; R32 12,5; R33 13,5; R34 14,5; R35 15,5; R36 16,5; R37 17,5; R38 18,5; R39 19,5; T1 -19,4; T2 -18,4; T3 -17,4; T4 -16,4; T5 -15,4; T6 -14,4; T7 -13,4; T8 -12,4; T9 -11,4; T10 -10,4; T11 -9,4; T12 -8,4; T13 -7,4; T14 -6,4; T15 -5,4; T16 -4,4; T17 -3,4; T18 -2,4; T19 -1,4; T20 0,4; T21 1,4; T22 2,4; T23 3,4; T24 4,4; T25 5,4; T26 6,4; T27 7,4; T28 8,4; T29 9,4; T30 10,4; T31 11,4; T32 12,4; T33 13,4; T34 14,4; T35 15,4; T36 16,4; T37 17,4; T38 18,4; T39 19,4; U1 -19,3; U2 -18,3; U3 -17,3; U4 -16,3; U5 -15,3; U6 -14,3; U7 -13,3; U8 -12,3; U9 -11,3; U10 -10,3; U11 -9,3; U12 -8,3; U13 -7,3; U14 -6,3; U15 -5,3; U16 -4,3; U17 -3,3; U18 -2,3; U19 -1,3; U20 0,3; U21 1,3; U22 2,3; U23 3,3; U24 4,3; U25 5,3; U26 6,3; U27 7,3; U28 8,3; U29 9,3; U30 10,3; U31 11,3; U32 12,3; U33 13,3; U34 14,3; U35 15,3; U36 16,3; U37 17,3; U38 18,3; U39 19,3; V1 -19,2; V2 -18,2; V3 -17,2; V4 -16,2; V5 -15,2; V6 -14,2; V7 -13,2; V8 -12,2; V9 -11,2; V10 -10,2; V11 -9,2; V12 -8,2; V13 -7,2; V14 -6,2; V15 -5,2; V16 -4,2; V17 -3,2; V18 -2,2; V19 -1,2; V20 0,2; V21 1,2; V22 2,2; V23 3,2; V24 4,2; V25 5,2; V26 6,2; V27 7,2; V28 8,2; V29 9,2; V30 10,2; V31 11,2; V32 12,2; V33 13,2; V34 14,2; V35 15,2; V36 16,2; V37 17,2; V38 18,2; V39 19,2; W1 -19,1; W2 -18,1; W3 -17,1; W4 -16,1; W5 -15,1; W6 -14,1; W7 -13,1; W8 -12,1; W9 -11,1; W10 -10,1; W11 -9,1; W12 -8,1; W13 -7,1; W14 -6,1; W15 -5,1; W16 -4,1; W17 -3,1; W18 -2,1; W19 -1,1; W20 0,1; W21 1,1; W22 2,1; W23 3,1; W24 4,1; W25 5,1; W26 6,1; W27 7,1; W28 8,1; W29 9,1; W30 10,1; W31 11,1; W32 12,1; W33 13,1; W34 14,1; W35 15,1; W36 16,1; W37 17,1; W38 18,1; W39 19,1; Y1 -19,0; Y2 -18,0; Y3 -17,0; Y4 -16,0; Y5 -15,0; Y6 -14,0; Y7 -13,0; Y8 -12,0; Y9 -11,0; Y10 -10,0; Y11 -9,0; Y12 -8,0; Y13 -7,0; Y14 -6,0; Y15 -5,0; Y16 -4,0; Y17 -3,0; Y18 -2,0; Y19 -1,0; Y20 0,0; Y21 1,0; Y22 2,0; Y23 3,0; Y24 4,0; Y25 5,0; Y26 6,0; Y27 7,0; Y28 8,0; Y29 9,0; Y30 10,0; Y31 11,0; Y32 12,0; Y33 13,0; Y34 14,0; Y35 15,0; Y36 16,0; Y37 17,0; Y38 18,0; Y39 19,0